# Altium schematic symbol library FPGA_Microsemi.SchLib: 18 symbols
Pins are listed as number, name and electrical type; pins without a type are passive.

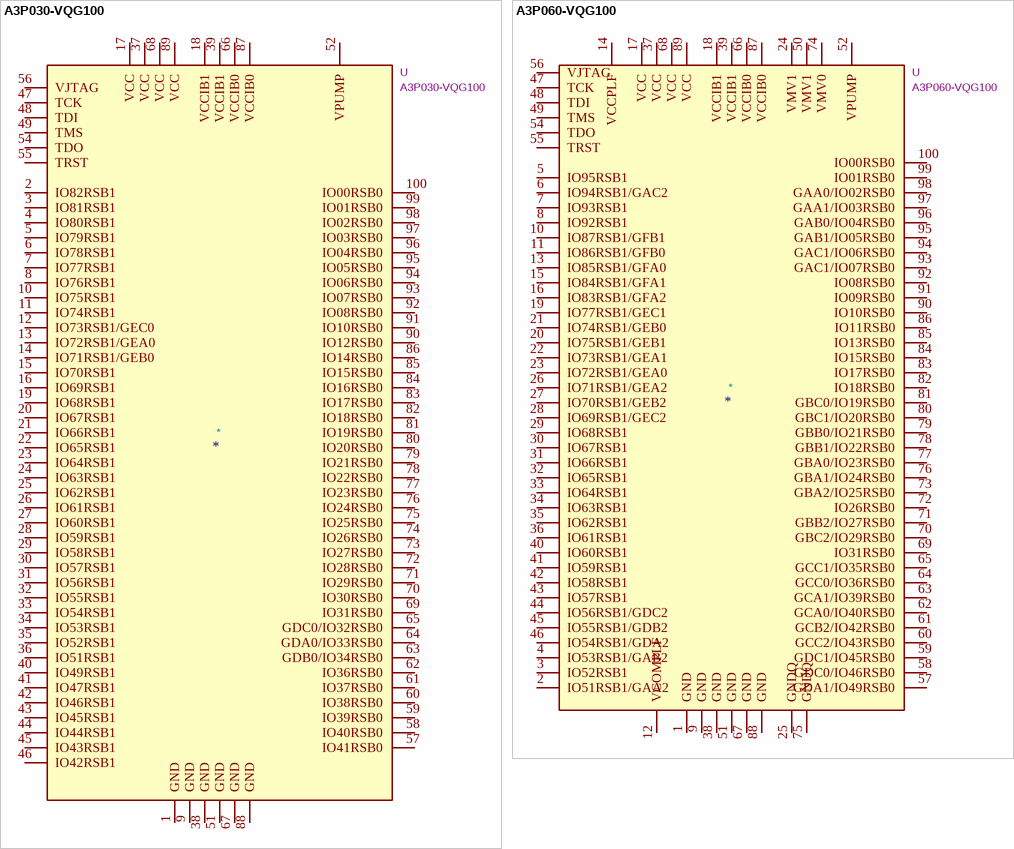
[diagram p0: symbols A3P030-VQG100 to A3P060-VQG100]

## A3P030-VQG100
designator *  value A3P030-VQG100  Reference: U
ki_keywords: ProASIC3 ACTEL FLASH; ki_description: Actel ProASIC3 Flash Family FPGAs, 256 MCLB, 100pin QFP100; ki_fp_filters: *QFP*14x14mm*P0.5mm*; Footprint: Package_QFP:VQFP-100_14x14mm_P0.5mm; Datasheet: http://www.microsemi.com/document-portal/doc_download/130704-proasic3-flash-family-fpgas-datasheet
pins: 1 GND, 2 IO82RSB1, 3 IO81RSB1, 4 IO80RSB1, 5 IO79RSB1, 6 IO78RSB1, 7 IO77RSB1, 8 IO76RSB1, 9 GND, 10 IO75RSB1, 11 IO74RSB1, 12 IO73RSB1/GEC0, 13 IO72RSB1/GEA0, 14 IO71RSB1/GEB0, 15 IO70RSB1, 16 IO69RSB1, 17 VCC, 18 VCCIB1, 19 IO68RSB1, 20 IO67RSB1, 21 IO66RSB1, 22 IO65RSB1, 23 IO64RSB1, 24 IO63RSB1, 25 IO62RSB1, 26 IO61RSB1, 27 IO60RSB1, 28 IO59RSB1, 29 IO58RSB1, 30 IO57RSB1, 31 IO56RSB1, 32 IO55RSB1, 33 IO54RSB1, 34 IO53RSB1, 35 IO52RSB1, 36 IO51RSB1, 37 VCC, 38 GND, 39 VCCIB1, 40 IO49RSB1, 41 IO47RSB1, 42 IO46RSB1, 43 IO45RSB1, 44 IO44RSB1, 45 IO43RSB1, 46 IO42RSB1, 47 TCK, 48 TDI, 49 TMS, 51 GND, 52 VPUMP, 54 TDO, 55 TRST, 56 VJTAG, 57 IO41RSB0, 58 IO40RSB0, 59 IO39RSB0, 60 IO38RSB0, 61 IO37RSB0, 62 IO36RSB0, 63 GDB0/IO34RSB0, 64 GDA0/IO33RSB0, 65 GDC0/IO32RSB0, 66 VCCIB0, 67 GND, 68 VCC, 69 IO31RSB0, 70 IO30RSB0, 71 IO29RSB0, 72 IO28RSB0, 73 IO27RSB0, 74 IO26RSB0, 75 IO25RSB0, 76 IO24RSB0, 77 IO23RSB0, 78 IO22RSB0, 79 IO21RSB0, 80 IO20RSB0, 81 IO19RSB0, 82 IO18RSB0, 83 IO17RSB0, 84 IO16RSB0, 85 IO15RSB0, 86 IO14RSB0, 87 VCCIB0, 88 GND, 89 VCC, 90 IO12RSB0, 91 IO10RSB0, 92 IO08RSB0, 93 IO07RSB0, 94 IO06RSB0, 95 IO05RSB0, 96 IO04RSB0, 97 IO03RSB0, 98 IO02RSB0, 99 IO01RSB0, 100 IO00RSB0

## A3P060-VQG100
designator *  value A3P060-VQG100  Reference: U
ki_keywords: ProASIC3 ACTEL FLASH; ki_description: Actel ProASIC3 Flash Family FPGAs, 512 MCLB, 100pin QFP100; ki_fp_filters: *QFP*14x14mm*P0.5mm*; Footprint: Package_QFP:VQFP-100_14x14mm_P0.5mm; Datasheet: http://www.microsemi.com/document-portal/doc_download/130704-proasic3-flash-family-fpgas-datasheet
pins: 1 GND, 2 IO51RSB1/GAA2, 3 IO52RSB1, 4 IO53RSB1/GAB2, 5 IO95RSB1, 6 IO94RSB1/GAC2, 7 IO93RSB1, 8 IO92RSB1, 9 GND, 10 IO87RSB1/GFB1, 11 IO86RSB1/GFB0, 12 VCOMPLF, 13 IO85RSB1/GFA0, 14 VCCPLF, 15 IO84RSB1/GFA1, 16 IO83RSB1/GFA2, 17 VCC, 18 VCCIB1, 19 IO77RSB1/GEC1, 20 IO75RSB1/GEB1, 21 IO74RSB1/GEB0, 22 IO73RSB1/GEA1, 23 IO72RSB1/GEA0, 24 VMV1, 25 GNDQ, 26 IO71RSB1/GEA2, 27 IO70RSB1/GEB2, 28 IO69RSB1/GEC2, 29 IO68RSB1, 30 IO67RSB1, 31 IO66RSB1, 32 IO65RSB1, 33 IO64RSB1, 34 IO63RSB1, 35 IO62RSB1, 36 IO61RSB1, 37 VCC, 38 GND, 39 VCCIB1, 40 IO60RSB1, 41 IO59RSB1, 42 IO58RSB1, 43 IO57RSB1, 44 IO56RSB1/GDC2, 45 IO55RSB1/GDB2, 46 IO54RSB1/GDA2, 47 TCK, 48 TDI, 49 TMS, 50 VMV1, 51 GND, 52 VPUMP, 54 TDO, 55 TRST, 56 VJTAG, 57 GDA1/IO49RSB0, 58 GDC0/IO46RSB0, 59 GDC1/IO45RSB0, 60 GCC2/IO43RSB0, 61 GCB2/IO42RSB0, 62 GCA0/IO40RSB0, 63 GCA1/IO39RSB0, 64 GCC0/IO36RSB0, 65 GCC1/IO35RSB0, 66 VCCIB0, 67 GND, 68 VCC, 69 IO31RSB0, 70 GBC2/IO29RSB0, 71 GBB2/IO27RSB0, 72 IO26RSB0, 73 GBA2/IO25RSB0, 74 VMV0, 75 GNDQ, 76 GBA1/IO24RSB0, 77 GBA0/IO23RSB0, 78 GBB1/IO22RSB0, 79 GBB0/IO21RSB0, 80 GBC1/IO20RSB0, 81 GBC0/IO19RSB0, 82 IO18RSB0, 83 IO17RSB0, 84 IO15RSB0, 85 IO13RSB0, 86 IO11RSB0, 87 VCCIB0, 88 GND, 89 VCC, 90 IO10RSB0, 91 IO09RSB0, 92 IO08RSB0, 93 GAC1/IO07RSB0, 94 GAC1/IO06RSB0, 95 GAB1/IO05RSB0, 96 GAB0/IO04RSB0, 97 GAA1/IO03RSB0, 98 GAA0/IO02RSB0, 99 IO01RSB0, 100 IO00RSB0

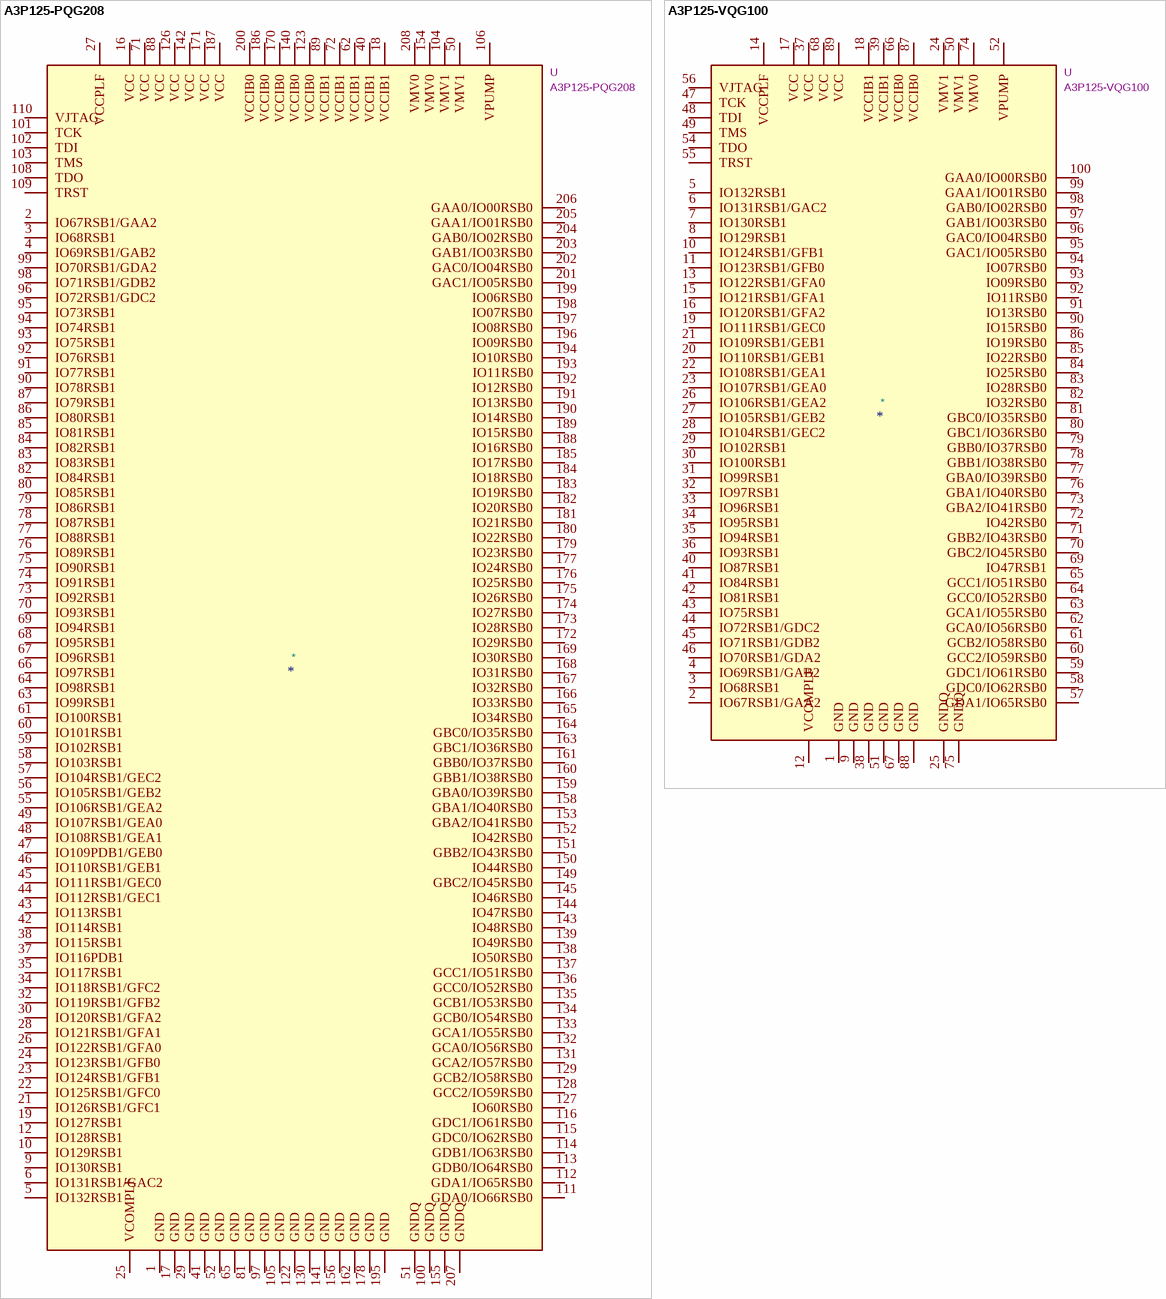
[diagram p1: symbols A3P125-PQG208 to A3P125-VQG100]

## A3P125-PQG208
designator *  value A3P125-PQG208  Reference: U
ki_keywords: ProASIC3 ACTEL FLASH; ki_description: Actel ProASIC3 Flash Family FPGAs, 1024MCB, 208pin QFP; ki_fp_filters: *PQFP*28x28mm*P0.5mm*; Footprint: Package_QFP:PQFP-208_28x28mm_P0.5mm; Datasheet: http://www.microsemi.com/document-portal/doc_download/130704-proasic3-flash-family-fpgas-datasheet
pins: 1 GND, 2 IO67RSB1/GAA2, 3 IO68RSB1, 4 IO69RSB1/GAB2, 5 IO132RSB1, 6 IO131RSB1/GAC2, 9 IO130RSB1, 10 IO129RSB1, 12 IO128RSB1, 16 VCC, 17 GND, 18 VCCIB1, 19 IO127RSB1, 21 IO126RSB1/GFC1, 22 IO125RSB1/GFC0, 23 IO124RSB1/GFB1, 24 IO123RSB1/GFB0, 25 VCOMPLF, 26 IO122RSB1/GFA0, 27 VCCPLF, 28 IO121RSB1/GFA1, 29 GND, 30 IO120RSB1/GFA2, 32 IO119RSB1/GFB2, 34 IO118RSB1/GFC2, 35 IO117RSB1, 37 IO116PDB1, 38 IO115RSB1, 40 VCCIB1, 41 GND, 42 IO114RSB1, 43 IO113RSB1, 44 IO112RSB1/GEC1, 45 IO111RSB1/GEC0, 46 IO110RSB1/GEB1, 47 IO109PDB1/GEB0, 48 IO108RSB1/GEA1, 49 IO107RSB1/GEA0, 50 VMV1, 51 GNDQ, 52 GND, 55 IO106RSB1/GEA2, 56 IO105RSB1/GEB2, 57 IO104RSB1/GEC2, 58 IO103RSB1, 59 IO102RSB1, 60 IO101RSB1, 61 IO100RSB1, 62 VCCIB1, 63 IO99RSB1, 64 IO98RSB1, 65 GND, 66 IO97RSB1, 67 IO96RSB1, 68 IO95RSB1, 69 IO94RSB1, 70 IO93RSB1, 71 VCC, 72 VCCIB1, 73 IO92RSB1, 74 IO91RSB1, 75 IO90RSB1, 76 IO89RSB1, 77 IO88RSB1, 78 IO87RSB1, 79 IO86RSB1, 80 IO85RSB1, 81 GND, 82 IO84RSB1, 83 IO83RSB1, 84 IO82RSB1, 85 IO81RSB1, 86 IO80RSB1, 87 IO79RSB1, 88 VCC, 89 VCCIB1, 90 IO78RSB1, 91 IO77RSB1, 92 IO76RSB1, 93 IO75RSB1, 94 IO74RSB1, 95 IO73RSB1, 96 IO72RSB1/GDC2, 97 GND, 98 IO71RSB1/GDB2, 99 IO70RSB1/GDA2, 100 GNDQ, 101 TCK, 102 TDI, 103 TMS, 104 VMV1, 105 GND, 106 VPUMP, 108 TDO, 109 TRST, 110 VJTAG, 111 GDA0/IO66RSB0, 112 GDA1/IO65RSB0, 113 GDB0/IO64RSB0, 114 GDB1/IO63RSB0, 115 GDC0/IO62RSB0, 116 GDC1/IO61RSB0, 122 GND, 123 VCCIB0, 126 VCC, 127 IO60RSB0, 128 GCC2/IO59RSB0, 129 GCB2/IO58RSB0, 130 GND, 131 GCA2/IO57RSB0, 132 GCA0/IO56RSB0, 133 GCA1/IO55RSB0, 134 GCB0/IO54RSB0, 135 GCB1/IO53RSB0, 136 GCC0/IO52RSB0, 137 GCC1/IO51RSB0, 138 IO50RSB0, 139 IO49RSB0, 140 VCCIB0, 141 GND, 142 VCC, 143 IO48RSB0, 144 IO47RSB0, 145 IO46RSB0, 149 GBC2/IO45RSB0, 150 IO44RSB0, 151 GBB2/IO43RSB0, 152 IO42RSB0, 153 GBA2/IO41RSB0, 154 VMV0, 155 GNDQ, 156 GND, 158 GBA1/IO40RSB0, 159 GBA0/IO39RSB0, 160 GBB1/IO38RSB0, 161 GBB0/IO37RSB0, 162 GND, 163 GBC1/IO36RSB0, 164 GBC0/IO35RSB0, 165 IO34RSB0, 166 IO33RSB0, 167 IO32RSB0, 168 IO31RSB0, 169 IO30RSB0, 170 VCCIB0, 171 VCC, 172 IO29RSB0, 173 IO28RSB0, 174 IO27RSB0, 175 IO26RSB0, 176 IO25RSB0, 177 IO24RSB0, 178 GND, 179 IO23RSB0, 180 IO22RSB0, 181 IO21RSB0, 182 IO20RSB0, 183 IO19RSB0, 184 IO18RSB0, 185 IO17RSB0, 186 VCCIB0, 187 VCC, 188 IO16RSB0, 189 IO15RSB0, 190 IO14RSB0, 191 IO13RSB0, 192 IO12RSB0, 193 IO11RSB0, 194 IO10RSB0, 195 GND, 196 IO09RSB0, 197 IO08RSB0, 198 IO07RSB0, 199 IO06RSB0, 200 VCCIB0, 201 GAC1/IO05RSB0, 202 GAC0/IO04RSB0, 203 GAB1/IO03RSB0, 204 GAB0/IO02RSB0, 205 GAA1/IO01RSB0, 206 GAA0/IO00RSB0, 207 GNDQ, 208 VMV0

## A3P125-VQG100
designator *  value A3P125-VQG100  Reference: U
ki_keywords: ProASIC3 ACTEL FLASH; ki_description: Actel ProASIC3 Flash Family FPGAs, 1024 MCLB, 100pin QFP100; ki_fp_filters: *QFP*14x14mm*P0.5mm*; Footprint: Package_QFP:VQFP-100_14x14mm_P0.5mm; Datasheet: http://www.microsemi.com/document-portal/doc_download/130704-proasic3-flash-family-fpgas-datasheet
pins: 1 GND, 2 IO67RSB1/GAA2, 3 IO68RSB1, 4 IO69RSB1/GAB2, 5 IO132RSB1, 6 IO131RSB1/GAC2, 7 IO130RSB1, 8 IO129RSB1, 9 GND, 10 IO124RSB1/GFB1, 11 IO123RSB1/GFB0, 12 VCOMPLF, 13 IO122RSB1/GFA0, 14 VCCPLF, 15 IO121RSB1/GFA1, 16 IO120RSB1/GFA2, 17 VCC, 18 VCCIB1, 19 IO111RSB1/GEC0, 20 IO110RSB1/GEB1, 21 IO109RSB1/GEB1, 22 IO108RSB1/GEA1, 23 IO107RSB1/GEA0, 24 VMV1, 25 GNDQ, 26 IO106RSB1/GEA2, 27 IO105RSB1/GEB2, 28 IO104RSB1/GEC2, 29 IO102RSB1, 30 IO100RSB1, 31 IO99RSB1, 32 IO97RSB1, 33 IO96RSB1, 34 IO95RSB1, 35 IO94RSB1, 36 IO93RSB1, 37 VCC, 38 GND, 39 VCCIB1, 40 IO87RSB1, 41 IO84RSB1, 42 IO81RSB1, 43 IO75RSB1, 44 IO72RSB1/GDC2, 45 IO71RSB1/GDB2, 46 IO70RSB1/GDA2, 47 TCK, 48 TDI, 49 TMS, 50 VMV1, 51 GND, 52 VPUMP, 54 TDO, 55 TRST, 56 VJTAG, 57 GDA1/IO65RSB0, 58 GDC0/IO62RSB0, 59 GDC1/IO61RSB0, 60 GCC2/IO59RSB0, 61 GCB2/IO58RSB0, 62 GCA0/IO56RSB0, 63 GCA1/IO55RSB0, 64 GCC0/IO52RSB0, 65 GCC1/IO51RSB0, 66 VCCIB0, 67 GND, 68 VCC, 69 IO47RSB1, 70 GBC2/IO45RSB0, 71 GBB2/IO43RSB0, 72 IO42RSB0, 73 GBA2/IO41RSB0, 74 VMV0, 75 GNDQ, 76 GBA1/IO40RSB0, 77 GBA0/IO39RSB0, 78 GBB1/IO38RSB0, 79 GBB0/IO37RSB0, 80 GBC1/IO36RSB0, 81 GBC0/IO35RSB0, 82 IO32RSB0, 83 IO28RSB0, 84 IO25RSB0, 85 IO22RSB0, 86 IO19RSB0, 87 VCCIB0, 88 GND, 89 VCC, 90 IO15RSB0, 91 IO13RSB0, 92 IO11RSB0, 93 IO09RSB0, 94 IO07RSB0, 95 GAC1/IO05RSB0, 96 GAC0/IO04RSB0, 97 GAB1/IO03RSB0, 98 GAB0/IO02RSB0, 99 GAA1/IO01RSB0, 100 GAA0/IO00RSB0

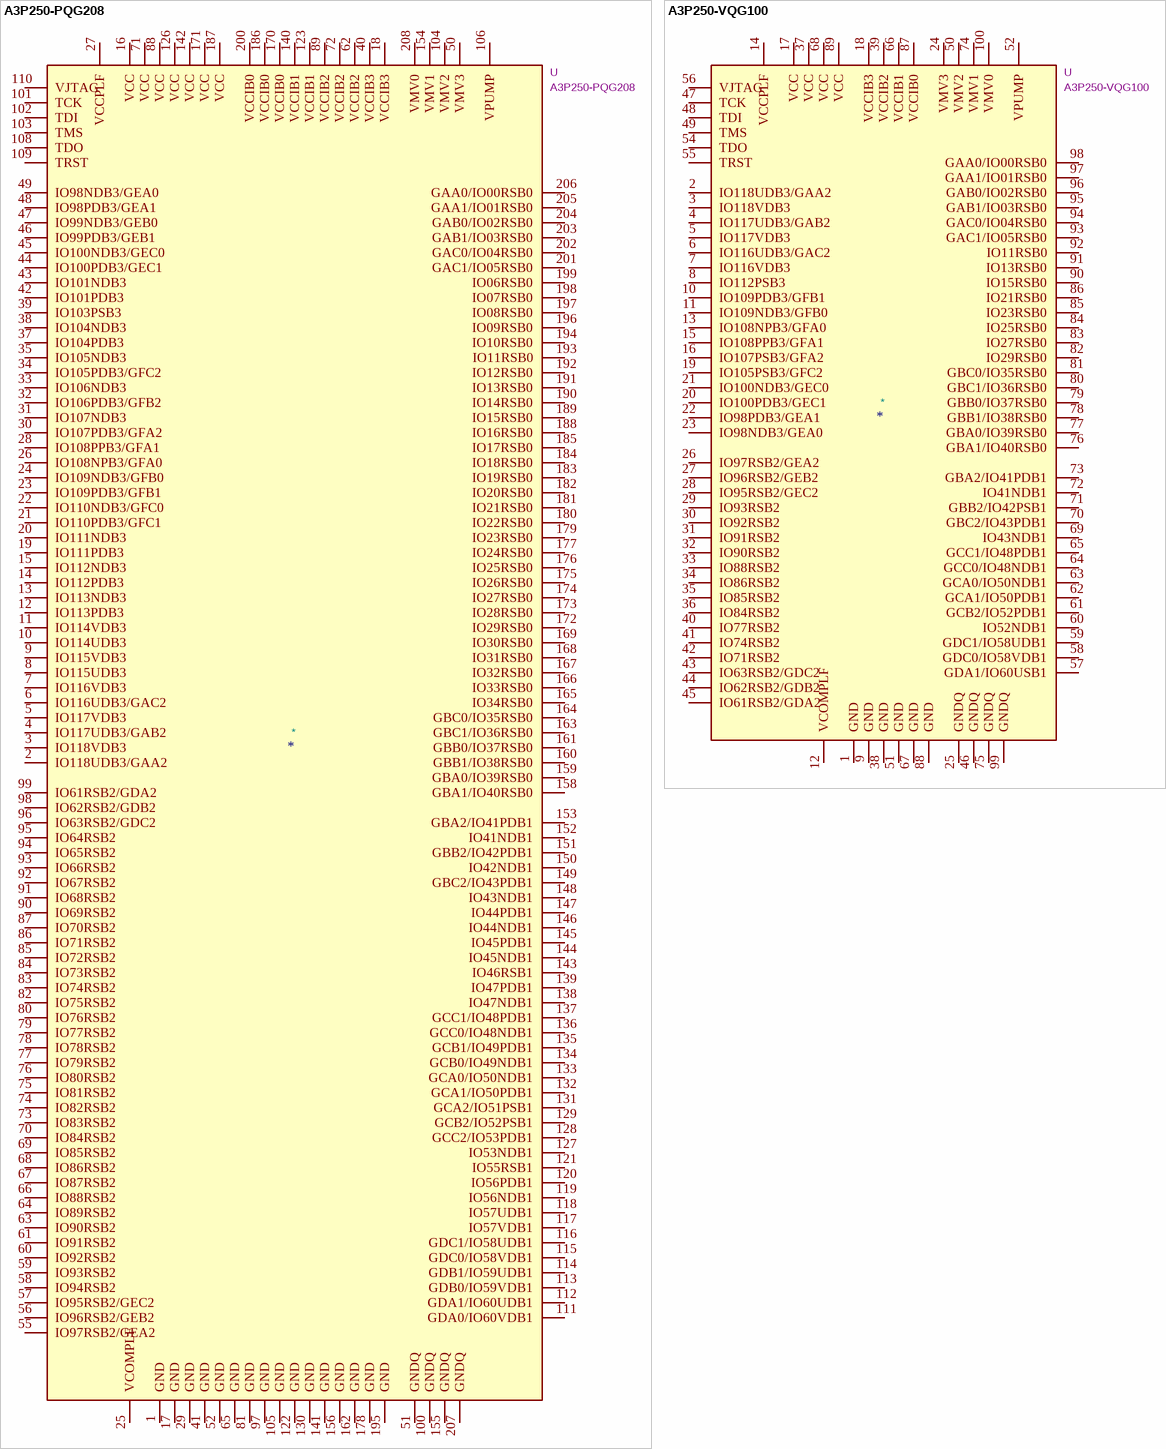
[diagram p2: symbols A3P250-PQG208 to A3P250-VQG100]

## A3P250-PQG208
designator *  value A3P250-PQG208  Reference: U
ki_keywords: ProASIC3 ACTEL FLASH; ki_description: Actel ProASIC3 Flash Family FPGAs, 2048MCB, 208pin QFP; ki_fp_filters: *PQFP*28x28mm*P0.5mm*; Footprint: Package_QFP:PQFP-208_28x28mm_P0.5mm; Datasheet: http://www.microsemi.com/document-portal/doc_download/130704-proasic3-flash-family-fpgas-datasheet
pins: 1 GND, 2 IO118UDB3/GAA2, 3 IO118VDB3, 4 IO117UDB3/GAB2, 5 IO117VDB3, 6 IO116UDB3/GAC2, 7 IO116VDB3, 8 IO115UDB3, 9 IO115VDB3, 10 IO114UDB3, 11 IO114VDB3, 12 IO113PDB3, 13 IO113NDB3, 14 IO112PDB3, 15 IO112NDB3, 16 VCC, 17 GND, 18 VCCIB3, 19 IO111PDB3, 20 IO111NDB3, 21 IO110PDB3/GFC1, 22 IO110NDB3/GFC0, 23 IO109PDB3/GFB1, 24 IO109NDB3/GFB0, 25 VCOMPLF, 26 IO108NPB3/GFA0, 27 VCCPLF, 28 IO108PPB3/GFA1, 29 GND, 30 IO107PDB3/GFA2, 31 IO107NDB3, 32 IO106PDB3/GFB2, 33 IO106NDB3, 34 IO105PDB3/GFC2, 35 IO105NDB3, 37 IO104PDB3, 38 IO104NDB3, 39 IO103PSB3, 40 VCCIB3, 41 GND, 42 IO101PDB3, 43 IO101NDB3, 44 IO100PDB3/GEC1, 45 IO100NDB3/GEC0, 46 IO99PDB3/GEB1, 47 IO99NDB3/GEB0, 48 IO98PDB3/GEA1, 49 IO98NDB3/GEA0, 50 VMV3, 51 GNDQ, 52 GND, 55 IO97RSB2/GEA2, 56 IO96RSB2/GEB2, 57 IO95RSB2/GEC2, 58 IO94RSB2, 59 IO93RSB2, 60 IO92RSB2, 61 IO91RSB2, 62 VCCIB2, 63 IO90RSB2, 64 IO89RSB2, 65 GND, 66 IO88RSB2, 67 IO87RSB2, 68 IO86RSB2, 69 IO85RSB2, 70 IO84RSB2, 71 VCC, 72 VCCIB2, 73 IO83RSB2, 74 IO82RSB2, 75 IO81RSB2, 76 IO80RSB2, 77 IO79RSB2, 78 IO78RSB2, 79 IO77RSB2, 80 IO76RSB2, 81 GND, 82 IO75RSB2, 83 IO74RSB2, 84 IO73RSB2, 85 IO72RSB2, 86 IO71RSB2, 87 IO70RSB2, 88 VCC, 89 VCCIB2, 90 IO69RSB2, 91 IO68RSB2, 92 IO67RSB2, 93 IO66RSB2, 94 IO65RSB2, 95 IO64RSB2, 96 IO63RSB2/GDC2, 97 GND, 98 IO62RSB2/GDB2, 99 IO61RSB2/GDA2, 100 GNDQ, 101 TCK, 102 TDI, 103 TMS, 104 VMV2, 105 GND, 106 VPUMP, 108 TDO, 109 TRST, 110 VJTAG, 111 GDA0/IO60VDB1, 112 GDA1/IO60UDB1, 113 GDB0/IO59VDB1, 114 GDB1/IO59UDB1, 115 GDC0/IO58VDB1, 116 GDC1/IO58UDB1, 117 IO57VDB1, 118 IO57UDB1, 119 IO56NDB1, 120 IO56PDB1, 121 IO55RSB1, 122 GND, 123 VCCIB1, 126 VCC, 127 IO53NDB1, 128 GCC2/IO53PDB1, 129 GCB2/IO52PSB1, 130 GND, 131 GCA2/IO51PSB1, 132 GCA1/IO50PDB1, 133 GCA0/IO50NDB1, 134 GCB0/IO49NDB1, 135 GCB1/IO49PDB1, 136 GCC0/IO48NDB1, 137 GCC1/IO48PDB1, 138 IO47NDB1, 139 IO47PDB1, 140 VCCIB1, 141 GND, 142 VCC, 143 IO46RSB1, 144 IO45NDB1, 145 IO45PDB1, 146 IO44NDB1, 147 IO44PDB1, 148 IO43NDB1, 149 GBC2/IO43PDB1, 150 IO42NDB1, 151 GBB2/IO42PDB1, 152 IO41NDB1, 153 GBA2/IO41PDB1, 154 VMV1, 155 GNDQ, 156 GND, 158 GBA1/IO40RSB0, 159 GBA0/IO39RSB0, 160 GBB1/IO38RSB0, 161 GBB0/IO37RSB0, 162 GND, 163 GBC1/IO36RSB0, 164 GBC0/IO35RSB0, 165 IO34RSB0, 166 IO33RSB0, 167 IO32RSB0, 168 IO31RSB0, 169 IO30RSB0, 170 VCCIB0, 171 VCC, 172 IO29RSB0, 173 IO28RSB0, 174 IO27RSB0, 175 IO26RSB0, 176 IO25RSB0, 177 IO24RSB0, 178 GND, 179 IO23RSB0, 180 IO22RSB0, 181 IO21RSB0, 182 IO20RSB0, 183 IO19RSB0, 184 IO18RSB0, 185 IO17RSB0, 186 VCCIB0, 187 VCC, 188 IO16RSB0, 189 IO15RSB0, 190 IO14RSB0, 191 IO13RSB0, 192 IO12RSB0, 193 IO11RSB0, 194 IO10RSB0, 195 GND, 196 IO09RSB0, 197 IO08RSB0, 198 IO07RSB0, 199 IO06RSB0, 200 VCCIB0, 201 GAC1/IO05RSB0, 202 GAC0/IO04RSB0, 203 GAB1/IO03RSB0, 204 GAB0/IO02RSB0, 205 GAA1/IO01RSB0, 206 GAA0/IO00RSB0, 207 GNDQ, 208 VMV0

## A3P250-VQG100
designator *  value A3P250-VQG100  Reference: U
ki_keywords: ProASIC3 ACTEL FLASH; ki_description: Actel ProASIC3 Flash Family FPGAs, 2048 MCLB, 100pin QFP100; ki_fp_filters: *QFP*14x14mm*P0.5mm*; Footprint: Package_QFP:VQFP-100_14x14mm_P0.5mm; Datasheet: http://www.microsemi.com/document-portal/doc_download/130704-proasic3-flash-family-fpgas-datasheet
pins: 1 GND, 2 IO118UDB3/GAA2, 3 IO118VDB3, 4 IO117UDB3/GAB2, 5 IO117VDB3, 6 IO116UDB3/GAC2, 7 IO116VDB3, 8 IO112PSB3, 9 GND, 10 IO109PDB3/GFB1, 11 IO109NDB3/GFB0, 12 VCOMPLF, 13 IO108NPB3/GFA0, 14 VCCPLF, 15 IO108PPB3/GFA1, 16 IO107PSB3/GFA2, 17 VCC, 18 VCCIB3, 19 IO105PSB3/GFC2, 20 IO100PDB3/GEC1, 21 IO100NDB3/GEC0, 22 IO98PDB3/GEA1, 23 IO98NDB3/GEA0, 24 VMV3, 25 GNDQ, 26 IO97RSB2/GEA2, 27 IO96RSB2/GEB2, 28 IO95RSB2/GEC2, 29 IO93RSB2, 30 IO92RSB2, 31 IO91RSB2, 32 IO90RSB2, 33 IO88RSB2, 34 IO86RSB2, 35 IO85RSB2, 36 IO84RSB2, 37 VCC, 38 GND, 39 VCCIB2, 40 IO77RSB2, 41 IO74RSB2, 42 IO71RSB2, 43 IO63RSB2/GDC2, 44 IO62RSB2/GDB2, 45 IO61RSB2/GDA2, 46 GNDQ, 47 TCK, 48 TDI, 49 TMS, 50 VMV2, 51 GND, 52 VPUMP, 54 TDO, 55 TRST, 56 VJTAG, 57 GDA1/IO60USB1, 58 GDC0/IO58VDB1, 59 GDC1/IO58UDB1, 60 IO52NDB1, 61 GCB2/IO52PDB1, 62 GCA1/IO50PDB1, 63 GCA0/IO50NDB1, 64 GCC0/IO48NDB1, 65 GCC1/IO48PDB1, 66 VCCIB1, 67 GND, 68 VCC, 69 IO43NDB1, 70 GBC2/IO43PDB1, 71 GBB2/IO42PSB1, 72 IO41NDB1, 73 GBA2/IO41PDB1, 74 VMV1, 75 GNDQ, 76 GBA1/IO40RSB0, 77 GBA0/IO39RSB0, 78 GBB1/IO38RSB0, 79 GBB0/IO37RSB0, 80 GBC1/IO36RSB0, 81 GBC0/IO35RSB0, 82 IO29RSB0, 83 IO27RSB0, 84 IO25RSB0, 85 IO23RSB0, 86 IO21RSB0, 87 VCCIB0, 88 GND, 89 VCC, 90 IO15RSB0, 91 IO13RSB0, 92 IO11RSB0, 93 GAC1/IO05RSB0, 94 GAC0/IO04RSB0, 95 GAB1/IO03RSB0, 96 GAB0/IO02RSB0, 97 GAA1/IO01RSB0, 98 GAA0/IO00RSB0, 99 GNDQ, 100 VMV0

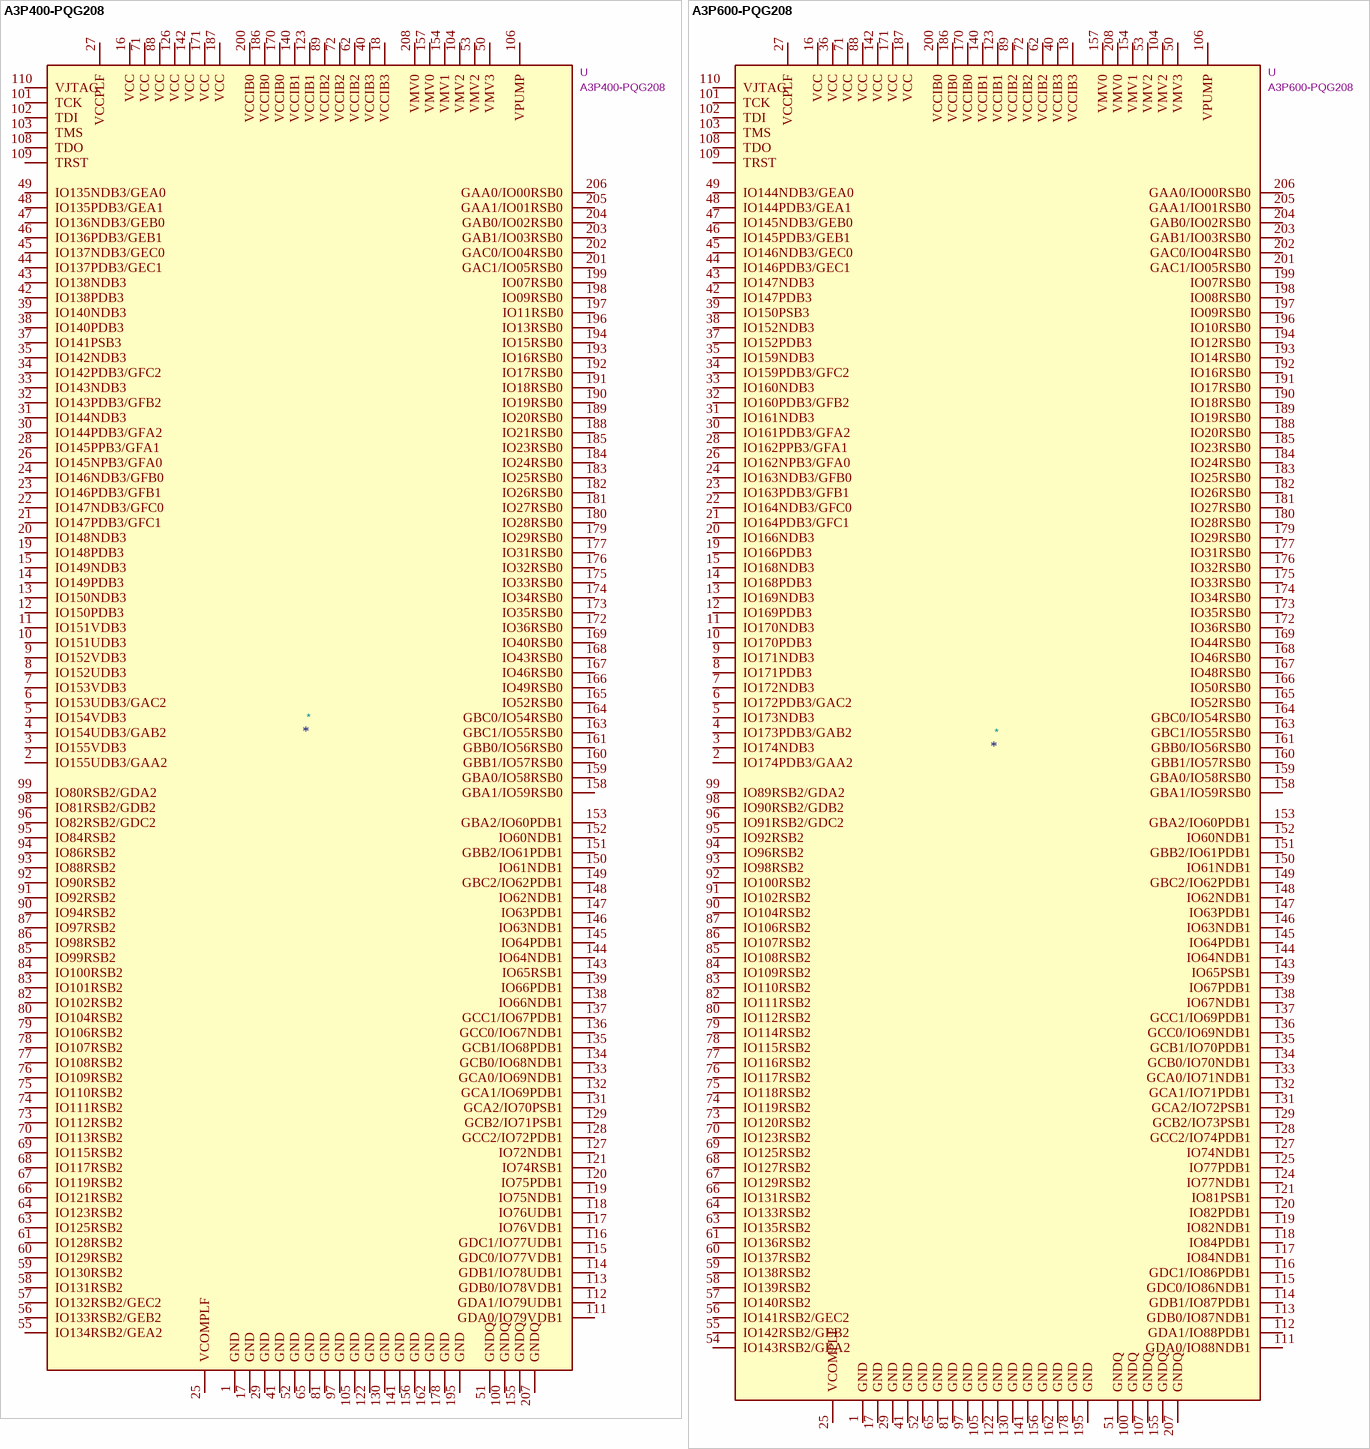
[diagram p3: symbols A3P400-PQG208 to A3P600-PQG208]

## A3P400-PQG208
designator *  value A3P400-PQG208  Reference: U
ki_keywords: ProASIC3 ACTEL FLASH; ki_description: Actel ProASIC3 Flash Family FPGAs, 400k Gates, 208pin QFP; ki_fp_filters: *PQFP*28x28mm*P0.5mm*; Footprint: Package_QFP:PQFP-208_28x28mm_P0.5mm; Datasheet: http://www.microsemi.com/document-portal/doc_download/130704-proasic3-flash-family-fpgas-datasheet
pins: 1 GND, 2 IO155UDB3/GAA2, 3 IO155VDB3, 4 IO154UDB3/GAB2, 5 IO154VDB3, 6 IO153UDB3/GAC2, 7 IO153VDB3, 8 IO152UDB3, 9 IO152VDB3, 10 IO151UDB3, 11 IO151VDB3, 12 IO150PDB3, 13 IO150NDB3, 14 IO149PDB3, 15 IO149NDB3, 16 VCC, 17 GND, 18 VCCIB3, 19 IO148PDB3, 20 IO148NDB3, 21 IO147PDB3/GFC1, 22 IO147NDB3/GFC0, 23 IO146PDB3/GFB1, 24 IO146NDB3/GFB0, 25 VCOMPLF, 26 IO145NPB3/GFA0, 27 VCCPLF, 28 IO145PPB3/GFA1, 29 GND, 30 IO144PDB3/GFA2, 31 IO144NDB3, 32 IO143PDB3/GFB2, 33 IO143NDB3, 34 IO142PDB3/GFC2, 35 IO142NDB3, 37 IO141PSB3, 38 IO140PDB3, 39 IO140NDB3, 40 VCCIB3, 41 GND, 42 IO138PDB3, 43 IO138NDB3, 44 IO137PDB3/GEC1, 45 IO137NDB3/GEC0, 46 IO136PDB3/GEB1, 47 IO136NDB3/GEB0, 48 IO135PDB3/GEA1, 49 IO135NDB3/GEA0, 50 VMV3, 51 GNDQ, 52 GND, 53 VMV2, 55 IO134RSB2/GEA2, 56 IO133RSB2/GEB2, 57 IO132RSB2/GEC2, 58 IO131RSB2, 59 IO130RSB2, 60 IO129RSB2, 61 IO128RSB2, 62 VCCIB2, 63 IO125RSB2, 64 IO123RSB2, 65 GND, 66 IO121RSB2, 67 IO119RSB2, 68 IO117RSB2, 69 IO115RSB2, 70 IO113RSB2, 71 VCC, 72 VCCIB2, 73 IO112RSB2, 74 IO111RSB2, 75 IO110RSB2, 76 IO109RSB2, 77 IO108RSB2, 78 IO107RSB2, 79 IO106RSB2, 80 IO104RSB2, 81 GND, 82 IO102RSB2, 83 IO101RSB2, 84 IO100RSB2, 85 IO99RSB2, 86 IO98RSB2, 87 IO97RSB2, 88 VCC, 89 VCCIB2, 90 IO94RSB2, 91 IO92RSB2, 92 IO90RSB2, 93 IO88RSB2, 94 IO86RSB2, 95 IO84RSB2, 96 IO82RSB2/GDC2, 97 GND, 98 IO81RSB2/GDB2, 99 IO80RSB2/GDA2, 100 GNDQ, 101 TCK, 102 TDI, 103 TMS, 104 VMV2, 105 GND, 106 VPUMP, 108 TDO, 109 TRST, 110 VJTAG, 111 GDA0/IO79VDB1, 112 GDA1/IO79UDB1, 113 GDB0/IO78VDB1, 114 GDB1/IO78UDB1, 115 GDC0/IO77VDB1, 116 GDC1/IO77UDB1, 117 IO76VDB1, 118 IO76UDB1, 119 IO75NDB1, 120 IO75PDB1, 121 IO74RSB1, 122 GND, 123 VCCIB1, 126 VCC, 127 IO72NDB1, 128 GCC2/IO72PDB1, 129 GCB2/IO71PSB1, 130 GND, 131 GCA2/IO70PSB1, 132 GCA1/IO69PDB1, 133 GCA0/IO69NDB1, 134 GCB0/IO68NDB1, 135 GCB1/IO68PDB1, 136 GCC0/IO67NDB1, 137 GCC1/IO67PDB1, 138 IO66NDB1, 139 IO66PDB1, 140 VCCIB1, 141 GND, 142 VCC, 143 IO65RSB1, 144 IO64NDB1, 145 IO64PDB1, 146 IO63NDB1, 147 IO63PDB1, 148 IO62NDB1, 149 GBC2/IO62PDB1, 150 IO61NDB1, 151 GBB2/IO61PDB1, 152 IO60NDB1, 153 GBA2/IO60PDB1, 154 VMV1, 155 GNDQ, 156 GND, 157 VMV0, 158 GBA1/IO59RSB0, 159 GBA0/IO58RSB0, 160 GBB1/IO57RSB0, 161 GBB0/IO56RSB0, 162 GND, 163 GBC1/IO55RSB0, 164 GBC0/IO54RSB0, 165 IO52RSB0, 166 IO49RSB0, 167 IO46RSB0, 168 IO43RSB0, 169 IO40RSB0, 170 VCCIB0, 171 VCC, 172 IO36RSB0, 173 IO35RSB0, 174 IO34RSB0, 175 IO33RSB0, 176 IO32RSB0, 177 IO31RSB0, 178 GND, 179 IO29RSB0, 180 IO28RSB0, 181 IO27RSB0, 182 IO26RSB0, 183 IO25RSB0, 184 IO24RSB0, 185 IO23RSB0, 186 VCCIB0, 187 VCC, 188 IO21RSB0, 189 IO20RSB0, 190 IO19RSB0, 191 IO18RSB0, 192 IO17RSB0, 193 IO16RSB0, 194 IO15RSB0, 195 GND, 196 IO13RSB0, 197 IO11RSB0, 198 IO09RSB0, 199 IO07RSB0, 200 VCCIB0, 201 GAC1/IO05RSB0, 202 GAC0/IO04RSB0, 203 GAB1/IO03RSB0, 204 GAB0/IO02RSB0, 205 GAA1/IO01RSB0, 206 GAA0/IO00RSB0, 207 GNDQ, 208 VMV0

## A3P600-PQG208
designator *  value A3P600-PQG208  Reference: U
ki_keywords: ProASIC3 ACTEL FLASH; ki_description: Actel ProASIC3 Flash Family FPGAs, 600k Gates, 208pin QFP; ki_fp_filters: *PQFP*28x28mm*P0.5mm*; Footprint: Package_QFP:PQFP-208_28x28mm_P0.5mm; Datasheet: http://www.microsemi.com/document-portal/doc_download/130704-proasic3-flash-family-fpgas-datasheet
pins: 1 GND, 2 IO174PDB3/GAA2, 3 IO174NDB3, 4 IO173PDB3/GAB2, 5 IO173NDB3, 6 IO172PDB3/GAC2, 7 IO172NDB3, 8 IO171PDB3, 9 IO171NDB3, 10 IO170PDB3, 11 IO170NDB3, 12 IO169PDB3, 13 IO169NDB3, 14 IO168PDB3, 15 IO168NDB3, 16 VCC, 17 GND, 18 VCCIB3, 19 IO166PDB3, 20 IO166NDB3, 21 IO164PDB3/GFC1, 22 IO164NDB3/GFC0, 23 IO163PDB3/GFB1, 24 IO163NDB3/GFB0, 25 VCOMPLF, 26 IO162NPB3/GFA0, 27 VCCPLF, 28 IO162PPB3/GFA1, 29 GND, 30 IO161PDB3/GFA2, 31 IO161NDB3, 32 IO160PDB3/GFB2, 33 IO160NDB3, 34 IO159PDB3/GFC2, 35 IO159NDB3, 36 VCC, 37 IO152PDB3, 38 IO152NDB3, 39 IO150PSB3, 40 VCCIB3, 41 GND, 42 IO147PDB3, 43 IO147NDB3, 44 IO146PDB3/GEC1, 45 IO146NDB3/GEC0, 46 IO145PDB3/GEB1, 47 IO145NDB3/GEB0, 48 IO144PDB3/GEA1, 49 IO144NDB3/GEA0, 50 VMV3, 51 GNDQ, 52 GND, 53 VMV2, 54 IO143RSB2/GEA2, 55 IO142RSB2/GEB2, 56 IO141RSB2/GEC2, 57 IO140RSB2, 58 IO139RSB2, 59 IO138RSB2, 60 IO137RSB2, 61 IO136RSB2, 62 VCCIB2, 63 IO135RSB2, 64 IO133RSB2, 65 GND, 66 IO131RSB2, 67 IO129RSB2, 68 IO127RSB2, 69 IO125RSB2, 70 IO123RSB2, 71 VCC, 72 VCCIB2, 73 IO120RSB2, 74 IO119RSB2, 75 IO118RSB2, 76 IO117RSB2, 77 IO116RSB2, 78 IO115RSB2, 79 IO114RSB2, 80 IO112RSB2, 81 GND, 82 IO111RSB2, 83 IO110RSB2, 84 IO109RSB2, 85 IO108RSB2, 86 IO107RSB2, 87 IO106RSB2, 88 VCC, 89 VCCIB2, 90 IO104RSB2, 91 IO102RSB2, 92 IO100RSB2, 93 IO98RSB2, 94 IO96RSB2, 95 IO92RSB2, 96 IO91RSB2/GDC2, 97 GND, 98 IO90RSB2/GDB2, 99 IO89RSB2/GDA2, 100 GNDQ, 101 TCK, 102 TDI, 103 TMS, 104 VMV2, 105 GND, 106 VPUMP, 107 GNDQ, 108 TDO, 109 TRST, 110 VJTAG, 111 GDA0/IO88NDB1, 112 GDA1/IO88PDB1, 113 GDB0/IO87NDB1, 114 GDB1/IO87PDB1, 115 GDC0/IO86NDB1, 116 GDC1/IO86PDB1, 117 IO84NDB1, 118 IO84PDB1, 119 IO82NDB1, 120 IO82PDB1, 121 IO81PSB1, 122 GND, 123 VCCIB1, 124 IO77NDB1, 125 IO77PDB1, 127 IO74NDB1, 128 GCC2/IO74PDB1, 129 GCB2/IO73PSB1, 130 GND, 131 GCA2/IO72PSB1, 132 GCA1/IO71PDB1, 133 GCA0/IO71NDB1, 134 GCB0/IO70NDB1, 135 GCB1/IO70PDB1, 136 GCC0/IO69NDB1, 137 GCC1/IO69PDB1, 138 IO67NDB1, 139 IO67PDB1, 140 VCCIB1, 141 GND, 142 VCC, 143 IO65PSB1, 144 IO64NDB1, 145 IO64PDB1, 146 IO63NDB1, 147 IO63PDB1, 148 IO62NDB1, 149 GBC2/IO62PDB1, 150 IO61NDB1, 151 GBB2/IO61PDB1, 152 IO60NDB1, 153 GBA2/IO60PDB1, 154 VMV1, 155 GNDQ, 156 GND, 157 VMV0, 158 GBA1/IO59RSB0, 159 GBA0/IO58RSB0, 160 GBB1/IO57RSB0, 161 GBB0/IO56RSB0, 162 GND, 163 GBC1/IO55RSB0, 164 GBC0/IO54RSB0, 165 IO52RSB0, 166 IO50RSB0, 167 IO48RSB0, 168 IO46RSB0, 169 IO44RSB0, 170 VCCIB0, 171 VCC, 172 IO36RSB0, 173 IO35RSB0, 174 IO34RSB0, 175 IO33RSB0, 176 IO32RSB0, 177 IO31RSB0, 178 GND, 179 IO29RSB0, 180 IO28RSB0, 181 IO27RSB0, 182 IO26RSB0, 183 IO25RSB0, 184 IO24RSB0, 185 IO23RSB0, 186 VCCIB0, 187 VCC, 188 IO20RSB0, 189 IO19RSB0, 190 IO18RSB0, 191 IO17RSB0, 192 IO16RSB0, 193 IO14RSB0, 194 IO12RSB0, 195 GND, 196 IO10RSB0, 197 IO09RSB0, 198 IO08RSB0, 199 IO07RSB0, 200 VCCIB0, 201 GAC1/IO05RSB0, 202 GAC0/IO04RSB0, 203 GAB1/IO03RSB0, 204 GAB0/IO02RSB0, 205 GAA1/IO01RSB0, 206 GAA0/IO00RSB0, 207 GNDQ, 208 VMV0

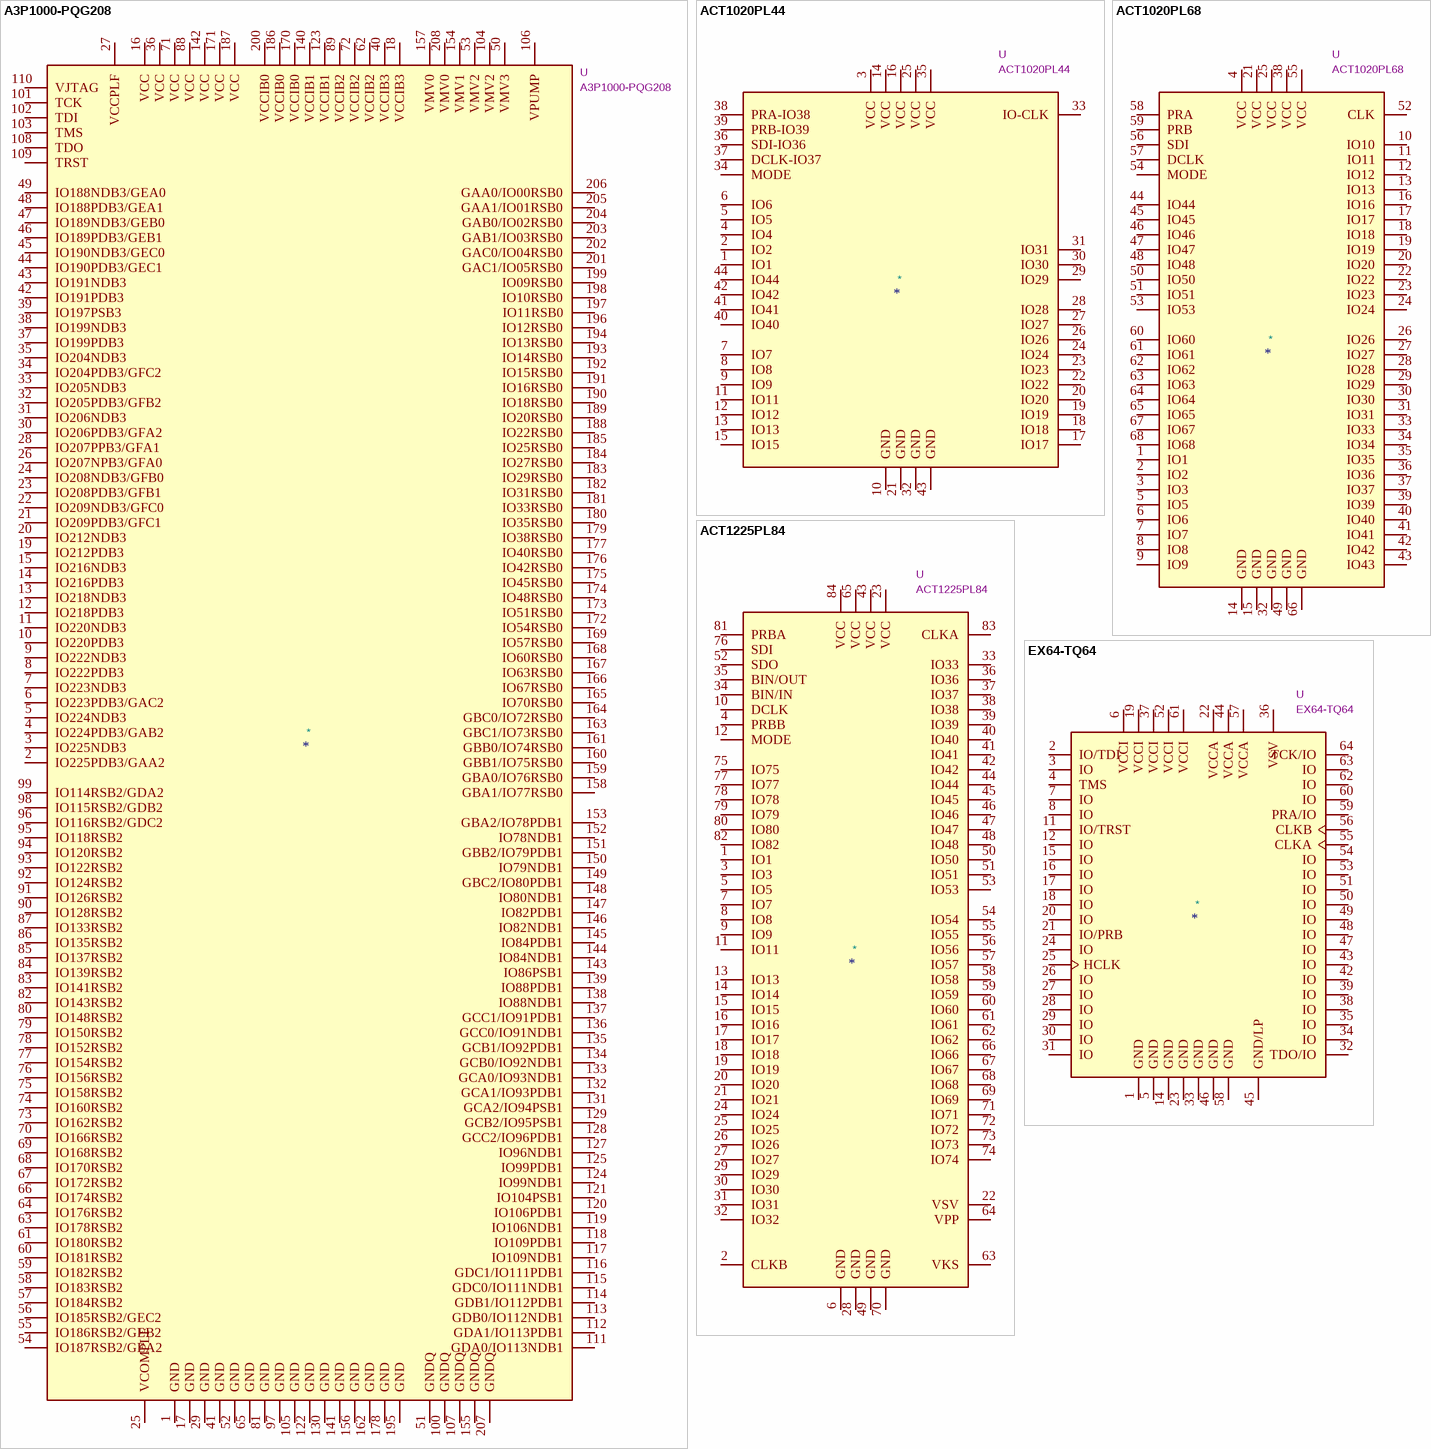
[diagram p4: symbols A3P1000-PQG208 to EX64-TQ64]

## A3P1000-PQG208
designator *  value A3P1000-PQG208  Reference: U
ki_keywords: ProASIC3 ACTEL FLASH; ki_description: Actel ProASIC3 Flash Family FPGAs, 1000k Gates, 208pin QFP; ki_fp_filters: *PQFP*28x28mm*P0.5mm*; Footprint: Package_QFP:PQFP-208_28x28mm_P0.5mm; Datasheet: http://www.microsemi.com/document-portal/doc_download/130704-proasic3-flash-family-fpgas-datasheet
pins: 1 GND, 2 IO225PDB3/GAA2, 3 IO225NDB3, 4 IO224PDB3/GAB2, 5 IO224NDB3, 6 IO223PDB3/GAC2, 7 IO223NDB3, 8 IO222PDB3, 9 IO222NDB3, 10 IO220PDB3, 11 IO220NDB3, 12 IO218PDB3, 13 IO218NDB3, 14 IO216PDB3, 15 IO216NDB3, 16 VCC, 17 GND, 18 VCCIB3, 19 IO212PDB3, 20 IO212NDB3, 21 IO209PDB3/GFC1, 22 IO209NDB3/GFC0, 23 IO208PDB3/GFB1, 24 IO208NDB3/GFB0, 25 VCOMPLF, 26 IO207NPB3/GFA0, 27 VCCPLF, 28 IO207PPB3/GFA1, 29 GND, 30 IO206PDB3/GFA2, 31 IO206NDB3, 32 IO205PDB3/GFB2, 33 IO205NDB3, 34 IO204PDB3/GFC2, 35 IO204NDB3, 36 VCC, 37 IO199PDB3, 38 IO199NDB3, 39 IO197PSB3, 40 VCCIB3, 41 GND, 42 IO191PDB3, 43 IO191NDB3, 44 IO190PDB3/GEC1, 45 IO190NDB3/GEC0, 46 IO189PDB3/GEB1, 47 IO189NDB3/GEB0, 48 IO188PDB3/GEA1, 49 IO188NDB3/GEA0, 50 VMV3, 51 GNDQ, 52 GND, 53 VMV2, 54 IO187RSB2/GEA2, 55 IO186RSB2/GEB2, 56 IO185RSB2/GEC2, 57 IO184RSB2, 58 IO183RSB2, 59 IO182RSB2, 60 IO181RSB2, 61 IO180RSB2, 62 VCCIB2, 63 IO178RSB2, 64 IO176RSB2, 65 GND, 66 IO174RSB2, 67 IO172RSB2, 68 IO170RSB2, 69 IO168RSB2, 70 IO166RSB2, 71 VCC, 72 VCCIB2, 73 IO162RSB2, 74 IO160RSB2, 75 IO158RSB2, 76 IO156RSB2, 77 IO154RSB2, 78 IO152RSB2, 79 IO150RSB2, 80 IO148RSB2, 81 GND, 82 IO143RSB2, 83 IO141RSB2, 84 IO139RSB2, 85 IO137RSB2, 86 IO135RSB2, 87 IO133RSB2, 88 VCC, 89 VCCIB2, 90 IO128RSB2, 91 IO126RSB2, 92 IO124RSB2, 93 IO122RSB2, 94 IO120RSB2, 95 IO118RSB2, 96 IO116RSB2/GDC2, 97 GND, 98 IO115RSB2/GDB2, 99 IO114RSB2/GDA2, 100 GNDQ, 101 TCK, 102 TDI, 103 TMS, 104 VMV2, 105 GND, 106 VPUMP, 107 GNDQ, 108 TDO, 109 TRST, 110 VJTAG, 111 GDA0/IO113NDB1, 112 GDA1/IO113PDB1, 113 GDB0/IO112NDB1, 114 GDB1/IO112PDB1, 115 GDC0/IO111NDB1, 116 GDC1/IO111PDB1, 117 IO109NDB1, 118 IO109PDB1, 119 IO106NDB1, 120 IO106PDB1, 121 IO104PSB1, 122 GND, 123 VCCIB1, 124 IO99NDB1, 125 IO99PDB1, 127 IO96NDB1, 128 GCC2/IO96PDB1, 129 GCB2/IO95PSB1, 130 GND, 131 GCA2/IO94PSB1, 132 GCA1/IO93PDB1, 133 GCA0/IO93NDB1, 134 GCB0/IO92NDB1, 135 GCB1/IO92PDB1, 136 GCC0/IO91NDB1, 137 GCC1/IO91PDB1, 138 IO88NDB1, 139 IO88PDB1, 140 VCCIB1, 141 GND, 142 VCC, 143 IO86PSB1, 144 IO84NDB1, 145 IO84PDB1, 146 IO82NDB1, 147 IO82PDB1, 148 IO80NDB1, 149 GBC2/IO80PDB1, 150 IO79NDB1, 151 GBB2/IO79PDB1, 152 IO78NDB1, 153 GBA2/IO78PDB1, 154 VMV1, 155 GNDQ, 156 GND, 157 VMV0, 158 GBA1/IO77RSB0, 159 GBA0/IO76RSB0, 160 GBB1/IO75RSB0, 161 GBB0/IO74RSB0, 162 GND, 163 GBC1/IO73RSB0, 164 GBC0/IO72RSB0, 165 IO70RSB0, 166 IO67RSB0, 167 IO63RSB0, 168 IO60RSB0, 169 IO57RSB0, 170 VCCIB0, 171 VCC, 172 IO54RSB0, 173 IO51RSB0, 174 IO48RSB0, 175 IO45RSB0, 176 IO42RSB0, 177 IO40RSB0, 178 GND, 179 IO38RSB0, 180 IO35RSB0, 181 IO33RSB0, 182 IO31RSB0, 183 IO29RSB0, 184 IO27RSB0, 185 IO25RSB0, 186 VCCIB0, 187 VCC, 188 IO22RSB0, 189 IO20RSB0, 190 IO18RSB0, 191 IO16RSB0, 192 IO15RSB0, 193 IO14RSB0, 194 IO13RSB0, 195 GND, 196 IO12RSB0, 197 IO11RSB0, 198 IO10RSB0, 199 IO09RSB0, 200 VCCIB0, 201 GAC1/IO05RSB0, 202 GAC0/IO04RSB0, 203 GAB1/IO03RSB0, 204 GAB0/IO02RSB0, 205 GAA1/IO01RSB0, 206 GAA0/IO00RSB0, 207 GNDQ, 208 VMV0

## ACT1020PL44
designator *  value ACT1020PL44  Reference: U
ki_keywords: Actel FPGA; ki_description: ACT1020-PL44, Actel ACT1 FPGA, PLCC-44; ki_fp_filters: *PLCC*16.6x16.6mm*P1.27mm*; Footprint: Package_LCC:PLCC-44_16.6x16.6mm_P1.27mm; Datasheet: https://www.microsemi.com/document-portal/doc_download/130666-act-1-series-fpgas-datasheet
pins: 1 IO1, 2 IO2, 3 VCC, 4 IO4, 5 IO5, 6 IO6, 7 IO7, 8 IO8, 9 IO9, 10 GND, 11 IO11, 12 IO12, 13 IO13, 14 VCC, 15 IO15, 16 VCC, 17 IO17, 18 IO18, 19 IO19, 20 IO20, 21 GND, 22 IO22, 23 IO23, 24 IO24, 25 VCC, 26 IO26, 27 IO27, 28 IO28, 29 IO29, 30 IO30, 31 IO31, 32 GND, 33 IO-CLK, 34 MODE, 35 VCC, 36 SDI-IO36, 37 DCLK-IO37, 38 PRA-IO38, 39 PRB-IO39, 40 IO40, 41 IO41, 42 IO42, 43 GND, 44 IO44

## ACT1020PL68
designator *  value ACT1020PL68  Reference: U
ki_keywords: Actel FPGA; ki_description: ACT1020-PL68, Actel ACT1 FPGA, PLCC-68; ki_fp_filters: *PLCC*24.2x24.2mm*P1.27mm*; Footprint: Package_LCC:PLCC-68_24.2x24.2mm_P1.27mm; Datasheet: https://www.microsemi.com/document-portal/doc_download/130666-act-1-series-fpgas-datasheet
pins: 1 IO1, 2 IO2, 3 IO3, 4 VCC, 5 IO5, 6 IO6, 7 IO7, 8 IO8, 9 IO9, 10 IO10, 11 IO11, 12 IO12, 13 IO13, 14 GND, 15 GND, 16 IO16, 17 IO17, 18 IO18, 19 IO19, 20 IO20, 21 VCC, 22 IO22, 23 IO23, 24 IO24, 25 VCC, 26 IO26, 27 IO27, 28 IO28, 29 IO29, 30 IO30, 31 IO31, 32 GND, 33 IO33, 34 IO34, 35 IO35, 36 IO36, 37 IO37, 38 VCC, 39 IO39, 40 IO40, 41 IO41, 42 IO42, 43 IO43, 44 IO44, 45 IO45, 46 IO46, 47 IO47, 48 IO48, 49 GND, 50 IO50, 51 IO51, 52 CLK, 53 IO53, 54 MODE, 55 VCC, 56 SDI, 57 DCLK, 58 PRA, 59 PRB, 60 IO60, 61 IO61, 62 IO62, 63 IO63, 64 IO64, 65 IO65, 66 GND, 67 IO67, 68 IO68

## ACT1225PL84
designator *  value ACT1225PL84  Reference: U
ki_keywords: Actel FPGA; ki_description: ACT1225-PL84, Actel ACT1 FPGA, PLCC-84; ki_fp_filters: *PLCC*29.3x29.3mm*P1.27mm*; Footprint: Package_LCC:PLCC-84_29.3x29.3mm_P1.27mm; Datasheet: https://www.microsemi.com/document-portal/doc_download/130666-act-1-series-fpgas-datasheet
pins: 1 IO1, 2 CLKB, 3 IO3, 4 PRBB, 5 IO5, 6 GND, 7 IO7, 8 IO8, 9 IO9, 10 DCLK, 11 IO11, 12 MODE, 13 IO13, 14 IO14, 15 IO15, 16 IO16, 17 IO17, 18 IO18, 19 IO19, 20 IO20, 21 IO21, 22 VSV, 23 VCC, 24 IO24, 25 IO25, 26 IO26, 27 IO27, 28 GND, 29 IO29, 30 IO30, 31 IO31, 32 IO32, 33 IO33, 34 BIN/IN, 35 BIN/OUT, 36 IO36, 37 IO37, 38 IO38, 39 IO39, 40 IO40, 41 IO41, 42 IO42, 43 VCC, 44 IO44, 45 IO45, 46 IO46, 47 IO47, 48 IO48, 49 GND, 50 IO50, 51 IO51, 52 SDO, 53 IO53, 54 IO54, 55 IO55, 56 IO56, 57 IO57, 58 IO58, 59 IO59, 60 IO60, 61 IO61, 62 IO62, 63 VKS, 64 VPP, 65 VCC, 66 IO66, 67 IO67, 68 IO68, 69 IO69, 70 GND, 71 IO71, 72 IO72, 73 IO73, 74 IO74, 75 IO75, 76 SDI, 77 IO77, 78 IO78, 79 IO79, 80 IO80, 81 PRBA, 82 IO82, 83 CLKA, 84 VCC

## EX64-TQ64
designator *  value EX64-TQ64  Reference: U
ki_keywords: Actel FPGA eX eX64; ki_description: Actel eX Family FPGA, 64pin QFP; ki_fp_filters: *TQFP*10x10mm*P0.5mm*; Footprint: Package_QFP:TQFP-64_10x10mm_P0.5mm; Datasheet: http://www.microsemi.com/document-portal/doc_download/130687-ex-datasheet
pins: 1 GND, 2 IO/TDI, 3 IO, 4 TMS, 5 GND, 6 VCCI, 7 IO, 8 IO, 11 IO/TRST, 12 IO, 14 GND, 15 IO, 16 IO, 17 IO, 18 IO, 19 VCCI, 20 IO, 21 IO/PRB, 22 VCCA, 23 GND, 24 IO, 25 HCLK, 26 IO, 27 IO, 28 IO, 29 IO, 30 IO, 31 IO, 32 TDO/IO, 33 GND, 34 IO, 35 IO, 36 VSV, 37 VCCI, 38 IO, 39 IO, 42 IO, 43 IO, 44 VCCA, 45 GND/LP, 46 GND, 47 IO, 48 IO, 49 IO, 50 IO, 51 IO, 52 VCCI, 53 IO, 54 IO, 55 CLKA, 56 CLKB, 57 VCCA, 58 GND, 59 PRA/IO, 60 IO, 61 VCCI, 62 IO, 63 IO, 64 TCK/IO

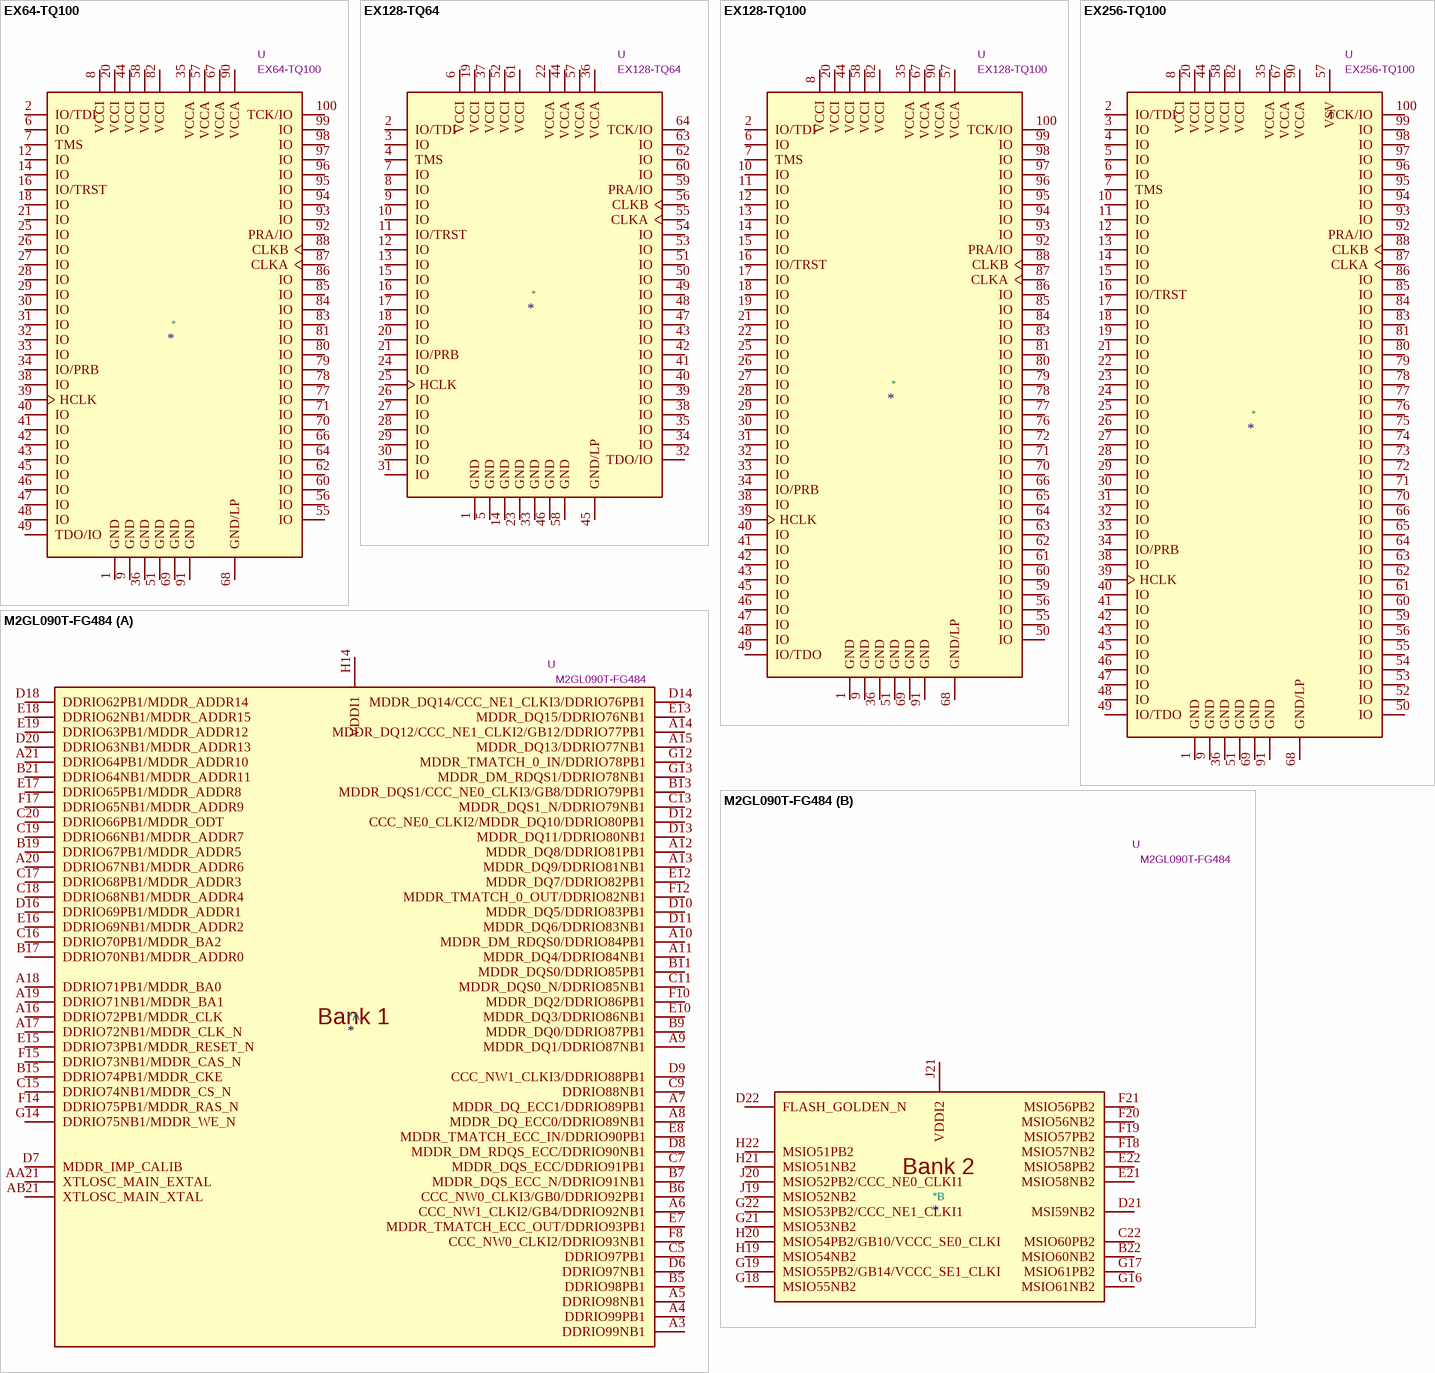
[diagram p5: symbols EX64-TQ100 to M2GL090T-FG484]

## EX64-TQ100
designator *  value EX64-TQ100  Reference: U
ki_keywords: Actel FPGA eX eX64; ki_description: Actel eX Family FPGA, 100pin QFP; ki_fp_filters: *QFP*14x14mm*P0.5mm*; Footprint: Package_QFP:TQFP-100_14x14mm_P0.5mm; Datasheet: http://www.microsemi.com/document-portal/doc_download/130687-ex-datasheet
pins: 1 GND, 2 IO/TDI, 6 IO, 7 TMS, 8 VCCI, 9 GND, 12 IO, 14 IO, 16 IO/TRST, 18 IO, 20 VCCI, 21 IO, 25 IO, 26 IO, 27 IO, 28 IO, 29 IO, 30 IO, 31 IO, 32 IO, 33 IO, 34 IO/PRB, 35 VCCA, 36 GND, 38 IO, 39 HCLK, 40 IO, 41 IO, 42 IO, 43 IO, 44 VCCI, 45 IO, 46 IO, 47 IO, 48 IO, 49 TDO/IO, 51 GND, 55 IO, 56 IO, 57 VCCA, 58 VCCI, 60 IO, 62 IO, 64 IO, 66 IO, 67 VCCA, 68 GND/LP, 69 GND, 70 IO, 71 IO, 77 IO, 78 IO, 79 IO, 80 IO, 81 IO, 82 VCCI, 83 IO, 84 IO, 85 IO, 86 IO, 87 CLKA, 88 CLKB, 90 VCCA, 91 GND, 92 PRA/IO, 93 IO, 94 IO, 95 IO, 96 IO, 97 IO, 98 IO, 99 IO, 100 TCK/IO

## EX128-TQ64
designator *  value EX128-TQ64  Reference: U
ki_keywords: Actel FPGA eX eX128; ki_description: Actel eX Family FPGA, 64pin QFP; ki_fp_filters: *TQFP*10x10mm*P0.5mm*; Footprint: Package_QFP:TQFP-64_10x10mm_P0.5mm; Datasheet: http://www.microsemi.com/document-portal/doc_download/130687-ex-datasheet
pins: 1 GND, 2 IO/TDI, 3 IO, 4 TMS, 5 GND, 6 VCCI, 7 IO, 8 IO, 9 IO, 10 IO, 11 IO/TRST, 12 IO, 13 IO, 14 GND, 15 IO, 16 IO, 17 IO, 18 IO, 19 VCCI, 20 IO, 21 IO/PRB, 22 VCCA, 23 GND, 24 IO, 25 HCLK, 26 IO, 27 IO, 28 IO, 29 IO, 30 IO, 31 IO, 32 TDO/IO, 33 GND, 34 IO, 35 IO, 36 VCCA, 37 VCCI, 38 IO, 39 IO, 40 IO, 41 IO, 42 IO, 43 IO, 44 VCCA, 45 GND/LP, 46 GND, 47 IO, 48 IO, 49 IO, 50 IO, 51 IO, 52 VCCI, 53 IO, 54 IO, 55 CLKA, 56 CLKB, 57 VCCA, 58 GND, 59 PRA/IO, 60 IO, 61 VCCI, 62 IO, 63 IO, 64 TCK/IO

## EX128-TQ100
designator *  value EX128-TQ100  Reference: U
ki_keywords: Actel FPGA eX eX128; ki_description: Actel eX FPGA Family, 100pin QFP; ki_fp_filters: *QFP*14x14mm*P0.5mm*; Footprint: Package_QFP:TQFP-100_14x14mm_P0.5mm; Datasheet: http://www.microsemi.com/document-portal/doc_download/130687-ex-datasheet
pins: 1 GND, 2 IO/TDI, 6 IO, 7 TMS, 8 VCCI, 9 GND, 10 IO, 11 IO, 12 IO, 13 IO, 14 IO, 15 IO, 16 IO/TRST, 17 IO, 18 IO, 19 IO, 20 VCCI, 21 IO, 22 IO, 25 IO, 26 IO, 27 IO, 28 IO, 29 IO, 30 IO, 31 IO, 32 IO, 33 IO, 34 IO/PRB, 35 VCCA, 36 GND, 38 IO, 39 HCLK, 40 IO, 41 IO, 42 IO, 43 IO, 44 VCCI, 45 IO, 46 IO, 47 IO, 48 IO, 49 IO/TDO, 50 IO, 51 GND, 55 IO, 56 IO, 57 VCCA, 58 VCCI, 59 IO, 60 IO, 61 IO, 62 IO, 63 IO, 64 IO, 65 IO, 66 IO, 67 VCCA, 68 GND/LP, 69 GND, 70 IO, 71 IO, 72 IO, 76 IO, 77 IO, 78 IO, 79 IO, 80 IO, 81 IO, 82 VCCI, 83 IO, 84 IO, 85 IO, 86 IO, 87 CLKA, 88 CLKB, 90 VCCA, 91 GND, 92 PRA/IO, 93 IO, 94 IO, 95 IO, 96 IO, 97 IO, 98 IO, 99 IO, 100 TCK/IO

## EX256-TQ100
designator *  value EX256-TQ100  Reference: U
ki_keywords: Actel FPGA eX eX256; ki_description: Actel eX FPGA Family, 100pin QFP; ki_fp_filters: *QFP*14x14mm*P0.5mm*; Footprint: Package_QFP:TQFP-100_14x14mm_P0.5mm; Datasheet: http://www.microsemi.com/document-portal/doc_download/130687-ex-datasheet
pins: 1 GND, 2 IO/TDI, 3 IO, 4 IO, 5 IO, 6 IO, 7 TMS, 8 VCCI, 9 GND, 10 IO, 11 IO, 12 IO, 13 IO, 14 IO, 15 IO, 16 IO/TRST, 17 IO, 18 IO, 19 IO, 20 VCCI, 21 IO, 22 IO, 23 IO, 24 IO, 25 IO, 26 IO, 27 IO, 28 IO, 29 IO, 30 IO, 31 IO, 32 IO, 33 IO, 34 IO/PRB, 35 VCCA, 36 GND, 38 IO, 39 HCLK, 40 IO, 41 IO, 42 IO, 43 IO, 44 VCCI, 45 IO, 46 IO, 47 IO, 48 IO, 49 IO/TDO, 50 IO, 51 GND, 52 IO, 53 IO, 54 IO, 55 IO, 56 IO, 57 VSV, 58 VCCI, 59 IO, 60 IO, 61 IO, 62 IO, 63 IO, 64 IO, 65 IO, 66 IO, 67 VCCA, 68 GND/LP, 69 GND, 70 IO, 71 IO, 72 IO, 73 IO, 74 IO, 75 IO, 76 IO, 77 IO, 78 IO, 79 IO, 80 IO, 81 IO, 82 VCCI, 83 IO, 84 IO, 85 IO, 86 IO, 87 CLKA, 88 CLKB, 90 VCCA, 91 GND, 92 PRA/IO, 93 IO, 94 IO, 95 IO, 96 IO, 97 IO, 98 IO, 99 IO, 100 TCK/IO

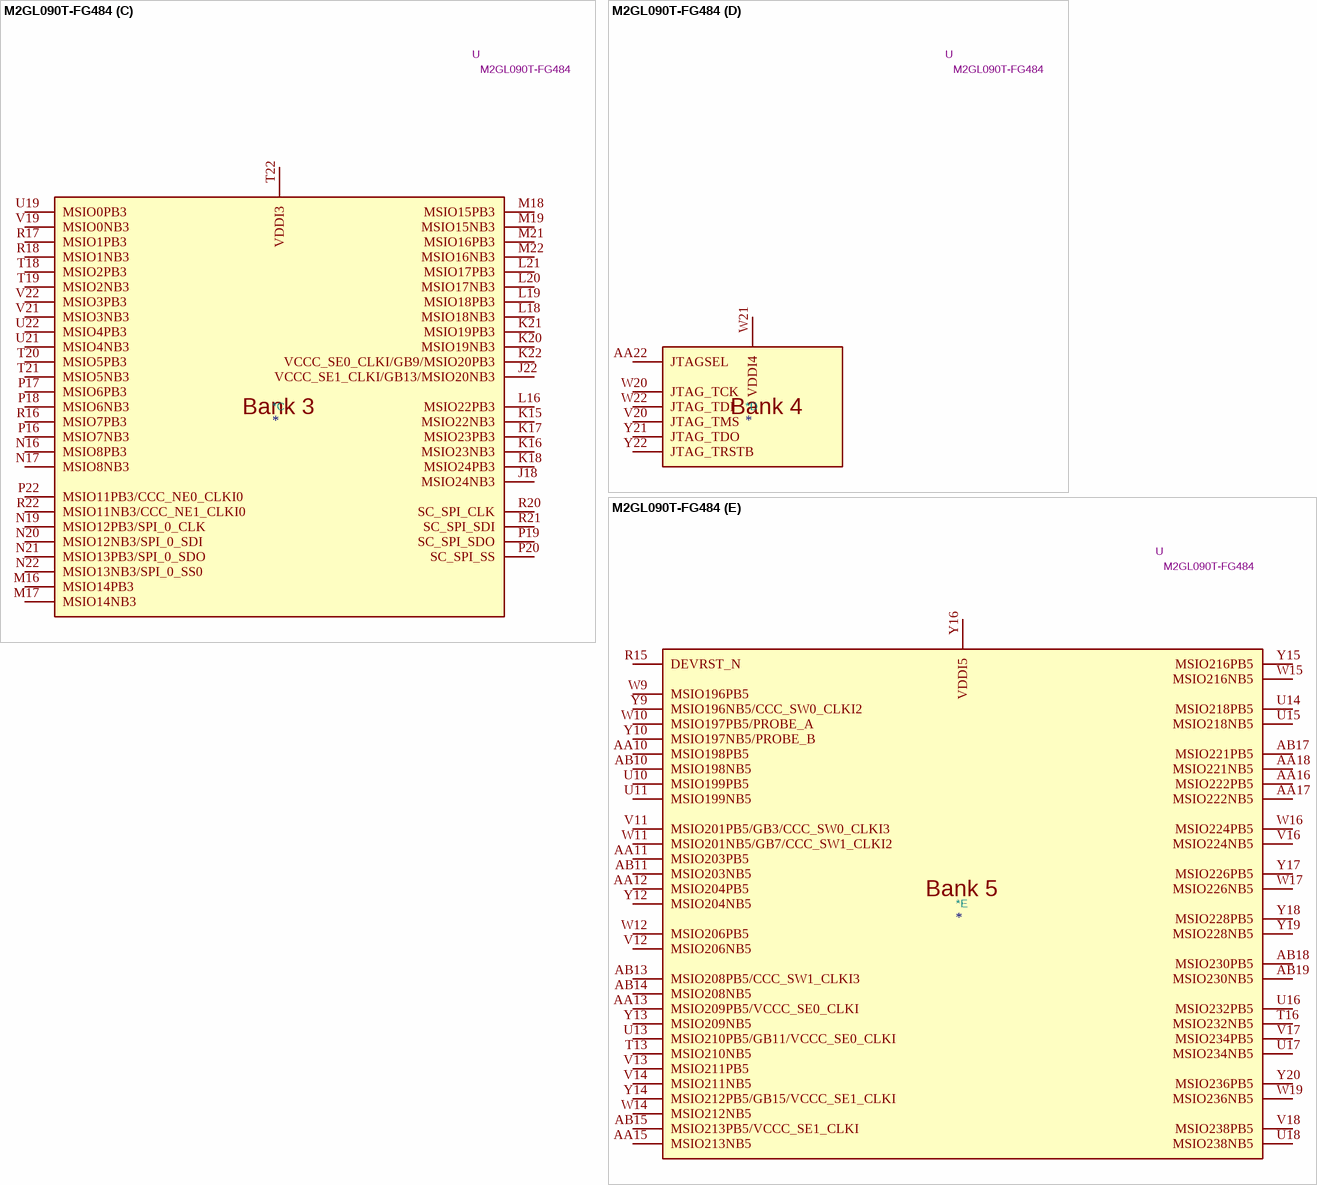
[diagram p6: symbol M2GL090T-FG484]

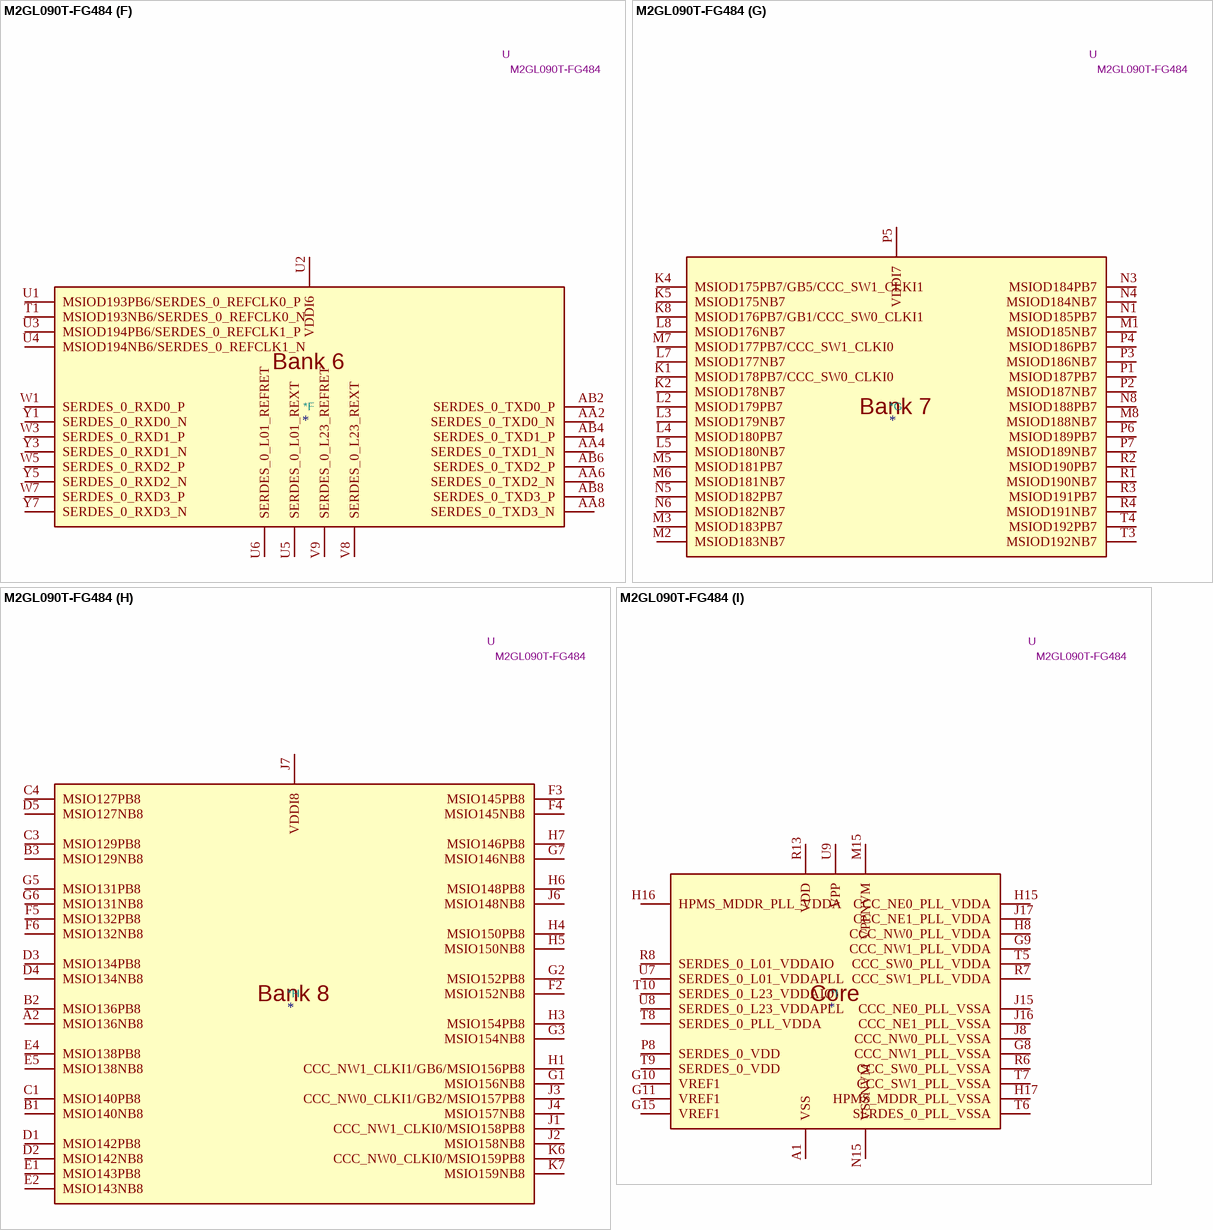
[diagram p7: symbol M2GL090T-FG484]

## M2GL090T-FG484
designator *  value M2GL090T-FG484  Reference: U
ki_keywords: FPGA Igloo2 BGA; ki_description: IGLOO2 FPGA and SmartFusion2 SoC FPGA; ki_fp_filters: BGA*484*23.0x23.0mm*Layout22x22*P1.0mm*; Footprint: Package_BGA:BGA-484_23.0x23.0mm_Layout22x22_P1.0mm; Datasheet: https://www.microsemi.com/document-portal/doc_download/132042-ds0128-igloo2-and-smartfusion2-datasheet
part A pins: A3 DDRIO99NB1, A4 DDRIO99PB1, A5 DDRIO98NB1, A6 CCC_NW1_CLKI2/GB4/DDRIO92NB1, A7 MDDR_DQ_ECC1/DDRIO89PB1, A8 MDDR_DQ_ECC0/DDRIO89NB1, A9 MDDR_DQ1/DDRIO87NB1, A10 MDDR_DM_RDQS0/DDRIO84PB1, A11 MDDR_DQ4/DDRIO84NB1, A12 MDDR_DQ8/DDRIO81PB1, A13 MDDR_DQ9/DDRIO81NB1, A14 MDDR_DQ12/CCC_NE1_CLKI2/GB12/DDRIO77PB1, A15 MDDR_DQ13/DDRIO77NB1, A16 DDRIO72PB1/MDDR_CLK, A17 DDRIO72NB1/MDDR_CLK_N, A18 DDRIO71PB1/MDDR_BA0, A19 DDRIO71NB1/MDDR_BA1, A20 DDRIO67NB1/MDDR_ADDR6, A21 DDRIO64PB1/MDDR_ADDR10, AA21 XTLOSC_MAIN_EXTAL, AB21 XTLOSC_MAIN_XTAL, B5 DDRIO98PB1, B6 CCC_NW0_CLKI3/GB0/DDRIO92PB1, B7 MDDR_DQS_ECC_N/DDRIO91NB1, B8 VDDI1 hidden, B9 MDDR_DQ0/DDRIO87PB1, B11 MDDR_DQS0/DDRIO85PB1, B12 VDDI1 hidden, B13 MDDR_DQS1/CCC_NE0_CLKI3/GB8/DDRIO79PB1, B15 DDRIO74PB1/MDDR_CKE, B16 VDDI1 hidden, B17 DDRIO70NB1/MDDR_ADDR0, B19 DDRIO67PB1/MDDR_ADDR5, B20 VDDI1 hidden, B21 DDRIO64NB1/MDDR_ADDR11, C5 DDRIO97PB1, C6 VDDI1 hidden, C7 MDDR_DQS_ECC/DDRIO91PB1, C9 DDRIO88NB1, C10 VDDI1 hidden, C11 MDDR_DQS0_N/DDRIO85NB1, C13 MDDR_DQS1_N/DDRIO79NB1, C14 VDDI1 hidden, C15 DDRIO74NB1/MDDR_CS_N, C16 DDRIO70PB1/MDDR_BA2, C17 DDRIO68PB1/MDDR_ADDR3, C18 DDRIO68NB1/MDDR_ADDR4, C19 DDRIO66NB1/MDDR_ADDR7, C20 DDRIO66PB1/MDDR_ODT, D6 DDRIO97NB1, D7 MDDR_IMP_CALIB, D8 MDDR_DM_RDQS_ECC/DDRIO90NB1, D9 CCC_NW1_CLKI3/DDRIO88PB1, D10 MDDR_DQ5/DDRIO83PB1, D11 MDDR_DQ6/DDRIO83NB1, D12 CCC_NE0_CLKI2/MDDR_DQ10/DDRIO80PB1, D13 MDDR_DQ11/DDRIO80NB1, D14 MDDR_DQ14/CCC_NE1_CLKI3/DDRIO76PB1, D16 DDRIO69PB1/MDDR_ADDR1, D17 VDDI1 hidden, D18 DDRIO62PB1/MDDR_ADDR14, D20 DDRIO63NB1/MDDR_ADDR13, E7 MDDR_TMATCH_ECC_OUT/DDRIO93PB1, E8 MDDR_TMATCH_ECC_IN/DDRIO90PB1, E10 MDDR_DQ3/DDRIO86NB1, E11 VDDI1 hidden, E12 MDDR_DQ7/DDRIO82PB1, E13 MDDR_DQ15/DDRIO76NB1, E15 DDRIO73PB1/MDDR_RESET_N, E16 DDRIO69NB1/MDDR_ADDR2, E17 DDRIO65PB1/MDDR_ADDR8, E18 DDRIO62NB1/MDDR_ADDR15, E19 DDRIO63PB1/MDDR_ADDR12, F7 VDDI1 hidden, F8 CCC_NW0_CLKI2/DDRIO93NB1, F9 VDDI1 hidden, F10 MDDR_DQ2/DDRIO86PB1, F12 MDDR_TMATCH_0_OUT/DDRIO82NB1, F13 VDDI1 hidden, F14 DDRIO75PB1/MDDR_RAS_N, F15 DDRIO73NB1/MDDR_CAS_N, F17 DDRIO65NB1/MDDR_ADDR9, G12 MDDR_TMATCH_0_IN/DDRIO78PB1, G13 MDDR_DM_RDQS1/DDRIO78NB1, G14 DDRIO75NB1/MDDR_WE_N, H12 VDDI1 hidden, H14 VDDI1
part B pins: B22 MSIO60NB2, C22 MSIO60PB2, D21 MSI59NB2, D22 FLASH_GOLDEN_N, E20 VDDI2 hidden, E21 MSIO58NB2, E22 MSIO58PB2, F18 MSIO57NB2, F19 MSIO57PB2, F20 MSIO56NB2, F21 MSIO56PB2, F22 VDDI2 hidden, G16 MSIO61NB2, G17 MSIO61PB2, G18 MSIO55NB2, G19 MSIO55PB2/GB14/VCCC_SE1_CLKI, G21 MSIO53NB2, G22 MSIO53PB2/CCC_NE1_CLKI1, H18 VDDI2 hidden, H19 MSIO54NB2, H20 MSIO54PB2/GB10/VCCC_SE0_CLKI, H21 MSIO51NB2, H22 MSIO51PB2, J19 MSIO52NB2, J20 MSIO52PB2/CCC_NE0_CLKI1, J21 VDDI2
part C pins: J18 MSIO24NB3, J22 VCCC_SE1_CLKI/GB13/MSIO20NB3, K15 MSIO22NB3, K16 MSIO23NB3, K17 MSIO23PB3, K18 MSIO24PB3, K20 MSIO19NB3, K21 MSIO19PB3, K22 VCCC_SE0_CLKI/GB9/MSIO20PB3, L16 MSIO22PB3, L17 VDDI3 hidden, L18 MSIO18NB3, L19 MSIO18PB3, L20 MSIO17NB3, L21 MSIO17PB3, M16 MSIO14PB3, M17 MSIO14NB3, M18 MSIO15PB3, M19 MSIO15NB3, M20 VDDI3 hidden, M21 MSIO16PB3, M22 MSIO16NB3, N16 MSIO8PB3, N17 MSIO8NB3, N19 MSIO12PB3/SPI_0_CLK, N20 MSIO12NB3/SPI_0_SDI, N21 MSIO13PB3/SPI_0_SDO, N22 MSIO13NB3/SPI_0_SS0, P16 MSIO7NB3, P17 MSIO6PB3, P18 MSIO6NB3, P19 SC_SPI_SDO, P20 SC_SPI_SS, P22 MSIO11PB3/CCC_NE0_CLKI0, R16 MSIO7PB3, R17 MSIO1PB3, R18 MSIO1NB3, R19 VDDI3 hidden, R20 SC_SPI_CLK, R21 SC_SPI_SDI, R22 MSIO11NB3/CCC_NE1_CLKI0, T18 MSIO2PB3, T19 MSIO2NB3, T20 MSIO5PB3, T21 MSIO5NB3, T22 VDDI3, U19 MSIO0PB3, U21 MSIO4NB3, U22 MSIO4PB3, V19 MSIO0NB3, V21 MSIO3NB3, V22 MSIO3PB3
part D pins: AA22 JTAGSEL, V20 JTAG_TMS, W20 JTAG_TCK, W21 VDDI4, W22 JTAG_TDI, Y21 JTAG_TDO, Y22 JTAG_TRSTB
part E pins: AA10 MSIO198PB5, AA11 MSIO203PB5, AA12 MSIO204PB5, AA13 MSIO209PB5/VCCC_SE0_CLKI, AA15 MSIO213NB5, AA16 MSIO222PB5, AA17 MSIO222NB5, AA18 MSIO221NB5, AA19 VDDI5 hidden, AB10 MSIO198NB5, AB11 MSIO203NB5, AB12 VDDI5 hidden, AB13 MSIO208PB5/CCC_SW1_CLKI3, AB14 MSIO208NB5, AB15 MSIO213PB5/VCCC_SE1_CLKI, AB17 MSIO221PB5, AB18 MSIO230PB5, AB19 MSIO230NB5, R15 DEVRST_N, T13 MSIO210NB5, T14 VDDI5 hidden, T16 MSIO232NB5, U10 MSIO199PB5, U11 MSIO199NB5, U13 MSIO210PB5/GB11/VCCC_SE0_CLKI, U14 MSIO218PB5, U15 MSIO218NB5, U16 MSIO232PB5, U17 MSIO234NB5, U18 MSIO238NB5, V10 VDDI5 hidden, V11 MSIO201PB5/GB3/CCC_SW0_CLKI3, V12 MSIO206NB5, V13 MSIO211PB5, V14 MSIO211NB5, V16 MSIO224NB5, V17 MSIO234PB5, V18 MSIO238PB5, W9 MSIO196PB5, W10 MSIO197PB5/PROBE_A, W11 MSIO201NB5/GB7/CCC_SW1_CLKI2, W12 MSIO206PB5, W13 VDDI5 hidden, W14 MSIO212NB5, W15 MSIO216NB5, W16 MSIO224PB5, W17 MSIO226NB5, W19 MSIO236NB5, Y9 MSIO196NB5/CCC_SW0_CLKI2, Y10 MSIO197NB5/PROBE_B, Y12 MSIO204NB5, Y13 MSIO209NB5, Y14 MSIO212PB5/GB15/VCCC_SE1_CLKI, Y15 MSIO216PB5, Y16 VDDI5, Y17 MSIO226PB5, Y18 MSIO228PB5, Y19 MSIO228NB5, Y20 MSIO236PB5
part F pins: AA2 SERDES_0_TXD0_N, AA4 SERDES_0_TXD1_N, AA6 SERDES_0_TXD2_N, AA8 SERDES_0_TXD3_N, AB2 SERDES_0_TXD0_P, AB4 SERDES_0_TXD1_P, AB6 SERDES_0_TXD2_P, AB8 SERDES_0_TXD3_P, T1 MSIOD193NB6/SERDES_0_REFCLK0_N, U1 MSIOD193PB6/SERDES_0_REFCLK0_P, U2 VDDI6, U3 MSIOD194PB6/SERDES_0_REFCLK1_P, U4 MSIOD194NB6/SERDES_0_REFCLK1_N, U5 SERDES_0_L01_REXT, U6 SERDES_0_L01_REFRET, V8 SERDES_0_L23_REXT, V9 SERDES_0_L23_REFRET, W1 SERDES_0_RXD0_P, W3 SERDES_0_RXD1_P, W5 SERDES_0_RXD2_P, W7 SERDES_0_RXD3_P, Y1 SERDES_0_RXD0_N, Y3 SERDES_0_RXD1_N, Y5 SERDES_0_RXD2_N, Y7 SERDES_0_RXD3_N
part G pins: K1 MSIOD178PB7/CCC_SW0_CLKI0, K2 MSIOD178NB7, K3 VDDI7 hidden, K4 MSIOD175PB7/GB5/CCC_SW1_CLKI1, K5 MSIOD175NB7, K8 MSIOD176PB7/GB1/CCC_SW0_CLKI1, L2 MSIOD179PB7, L3 MSIOD179NB7, L4 MSIOD180PB7, L5 MSIOD180NB7, L6 VDDI7 hidden, L7 MSIOD177NB7, L8 MSIOD176NB7, M1 MSIOD185NB7, M2 MSIOD183NB7, M3 MSIOD183PB7, M5 MSIOD181PB7, M6 MSIOD181NB7, M7 MSIOD177PB7/CCC_SW1_CLKI0, M8 MSIOD188NB7, N1 MSIOD185PB7, N2 VDDI7 hidden, N3 MSIOD184PB7, N4 MSIOD184NB7, N5 MSIOD182PB7, N6 MSIOD182NB7, N8 MSIOD188PB7, P1 MSIOD187PB7, P2 MSIOD187NB7, P3 MSIOD186NB7, P4 MSIOD186PB7, P5 VDDI7, P6 MSIOD189PB7, P7 MSIOD189NB7, R1 MSIOD190NB7, R2 MSIOD190PB7, R3 MSIOD191PB7, R4 MSIOD191NB7, T3 MSIOD192NB7, T4 MSIOD192PB7
part H pins: A2 MSIO136NB8, B1 MSIO140NB8, B2 MSIO136PB8, B3 MSIO129NB8, C1 MSIO140PB8, C2 VDDI8 hidden, C3 MSIO129PB8, C4 MSIO127PB8, D1 MSIO142PB8, D2 MSIO142NB8, D3 MSIO134PB8, D4 MSIO134NB8, D5 MSIO127NB8, E1 MSIO143PB8, E2 MSIO143NB8, E4 MSIO138PB8, E5 MSIO138NB8, F1 VDDI8 hidden, F2 MSIO152NB8, F3 MSIO145PB8, F4 MSIO145NB8, F5 MSIO132PB8, F6 MSIO132NB8, G1 MSIO156NB8, G2 MSIO152PB8, G3 MSIO154NB8, G4 VDDI8 hidden, G5 MSIO131PB8, G6 MSIO131NB8, G7 MSIO146NB8, H1 CCC_NW1_CLKI1/GB6/MSIO156PB8, H3 MSIO154PB8, H4 MSIO150PB8, H5 MSIO150NB8, H6 MSIO148PB8, H7 MSIO146PB8, J1 CCC_NW1_CLKI0/MSIO158PB8, J2 MSIO158NB8, J3 CCC_NW0_CLKI1/GB2/MSIO157PB8, J4 MSIO157NB8, J6 MSIO148NB8, J7 VDDI8, K6 CCC_NW0_CLKI0/MSIO159PB8, K7 MSIO159NB8
part I pins: A1 VSS, A22 VSS hidden, AA1 VSS hidden, AA3 VSS hidden, AA5 VSS hidden, AA7 VSS hidden, AA9 VSS hidden, AA14 VSS hidden, AA20 VPP hidden, AB1 VSS hidden, AB3 VSS hidden, AB5 VSS hidden, AB7 VSS hidden, AB9 VSS hidden, AB16 VSS hidden, AB20 VPP hidden, AB22 VSS hidden, B4 VSS hidden, B10 VSS hidden, B14 VSS hidden, B18 VSS hidden, C8 VSS hidden, C12 VSS hidden, C21 VSS hidden, D15 VSS hidden, D19 VSS hidden, E3 VSS hidden, E6 VSS hidden, E9 VSS hidden, E14 VSS hidden, F11 VSS hidden, F16 VSS hidden, G8 CCC_NW1_PLL_VSSA, G9 CCC_NW1_PLL_VDDA, G10 VREF1, G11 VREF1, G15 VREF1, G20 VSS hidden, H2 VSS hidden, H8 CCC_NW0_PLL_VDDA, H9 VSS hidden, H10 VDD hidden, H11 VSS hidden, H13 VSS hidden, H15 CCC_NE0_PLL_VDDA, H16 HPMS_MDDR_PLL_VDDA, H17 HPMS_MDDR_PLL_VSSA, J5 VSS hidden, J8 CCC_NW0_PLL_VSSA, J9 VDD hidden, J10 VSS hidden, J11 VDD hidden, J12 VSS hidden, J13 VDD hidden, J14 VSS hidden, J15 CCC_NE0_PLL_VSSA, J16 CCC_NE1_PLL_VSSA, J17 CCC_NE1_PLL_VDDA, K9 VSS hidden, K10 VDD hidden, K11 VSS hidden, K12 VDD hidden, K13 VSS hidden, K14 VDD hidden, K19 VSS hidden, L1 VSS hidden, L9 VDD hidden, L10 VSS hidden, L11 VDD hidden, L12 VSS hidden, L13 VDD hidden, L14 VSS hidden, L15 VPP hidden, L22 VSS hidden, M4 VSS hidden, M9 VSS hidden, M10 VDD hidden, M11 VSS hidden, M12 VDD hidden, M13 VSS hidden, M14 VDD hidden, M15 VPPNVM, N7 VSS hidden, N9 VDD hidden, N10 VSS hidden, N11 VDD hidden, N12 VSS hidden, N13 VDD hidden, N14 VSS hidden, N15 VSSNVM, N18 VSS hidden, P8 SERDES_0_VDD, P9 VSS hidden, P10 VDD hidden, P11 VSS hidden, P12 VDD hidden, P13 VSS hidden, P14 VDD hidden, P15 VPP hidden, P21 VSS hidden, R5 VSS hidden, R6 CCC_SW0_PLL_VSSA, R7 CCC_SW1_PLL_VDDA, R8 SERDES_0_L01_VDDAIO, R9 VSS hidden, R10 VSS hidden, R11 VDD hidden, R12 VSS hidden, R13 VDD, R14 VSS hidden, T2 VSS hidden, T5 CCC_SW0_PLL_VDDA, T6 SERDES_0_PLL_VSSA, T7 CCC_SW1_PLL_VSSA, T8 SERDES_0_PLL_VDDA, T9 SERDES_0_VDD, T10 SERDES_0_L23_VDDAIO, T11 NC hidden, T12 NC hidden, T15 VSS hidden, T17 VSS hidden, U7 SERDES_0_L01_VDDAPLL, U8 SERDES_0_L23_VDDAPLL, U9 VPP, U12 VSS hidden, U20 VSS hidden, V1 VSS hidden, V2 VSS hidden, V3 VSS hidden, V4 VSS hidden, V5 VSS hidden, V6 VSS hidden, V7 VSS hidden, V15 VSS hidden, W2 VSS hidden, W4 VSS hidden, W6 VSS hidden, W8 VSS hidden, W18 VSS hidden, Y2 VSS hidden, Y4 VSS hidden, Y6 VSS hidden, Y8 VSS hidden, Y11 VSS hidden
part A text: Bank 1
part B text: Bank 2
part C text: Bank 3
part D text: Bank 4
part E text: Bank 5
part F text: Bank 6
part G text: Bank 7
part H text: Bank 8
part I text: Core